# Altium schematic symbol library STMicroelectronics STM32 L1.SchLib: 169 symbols (part 12 of 20)
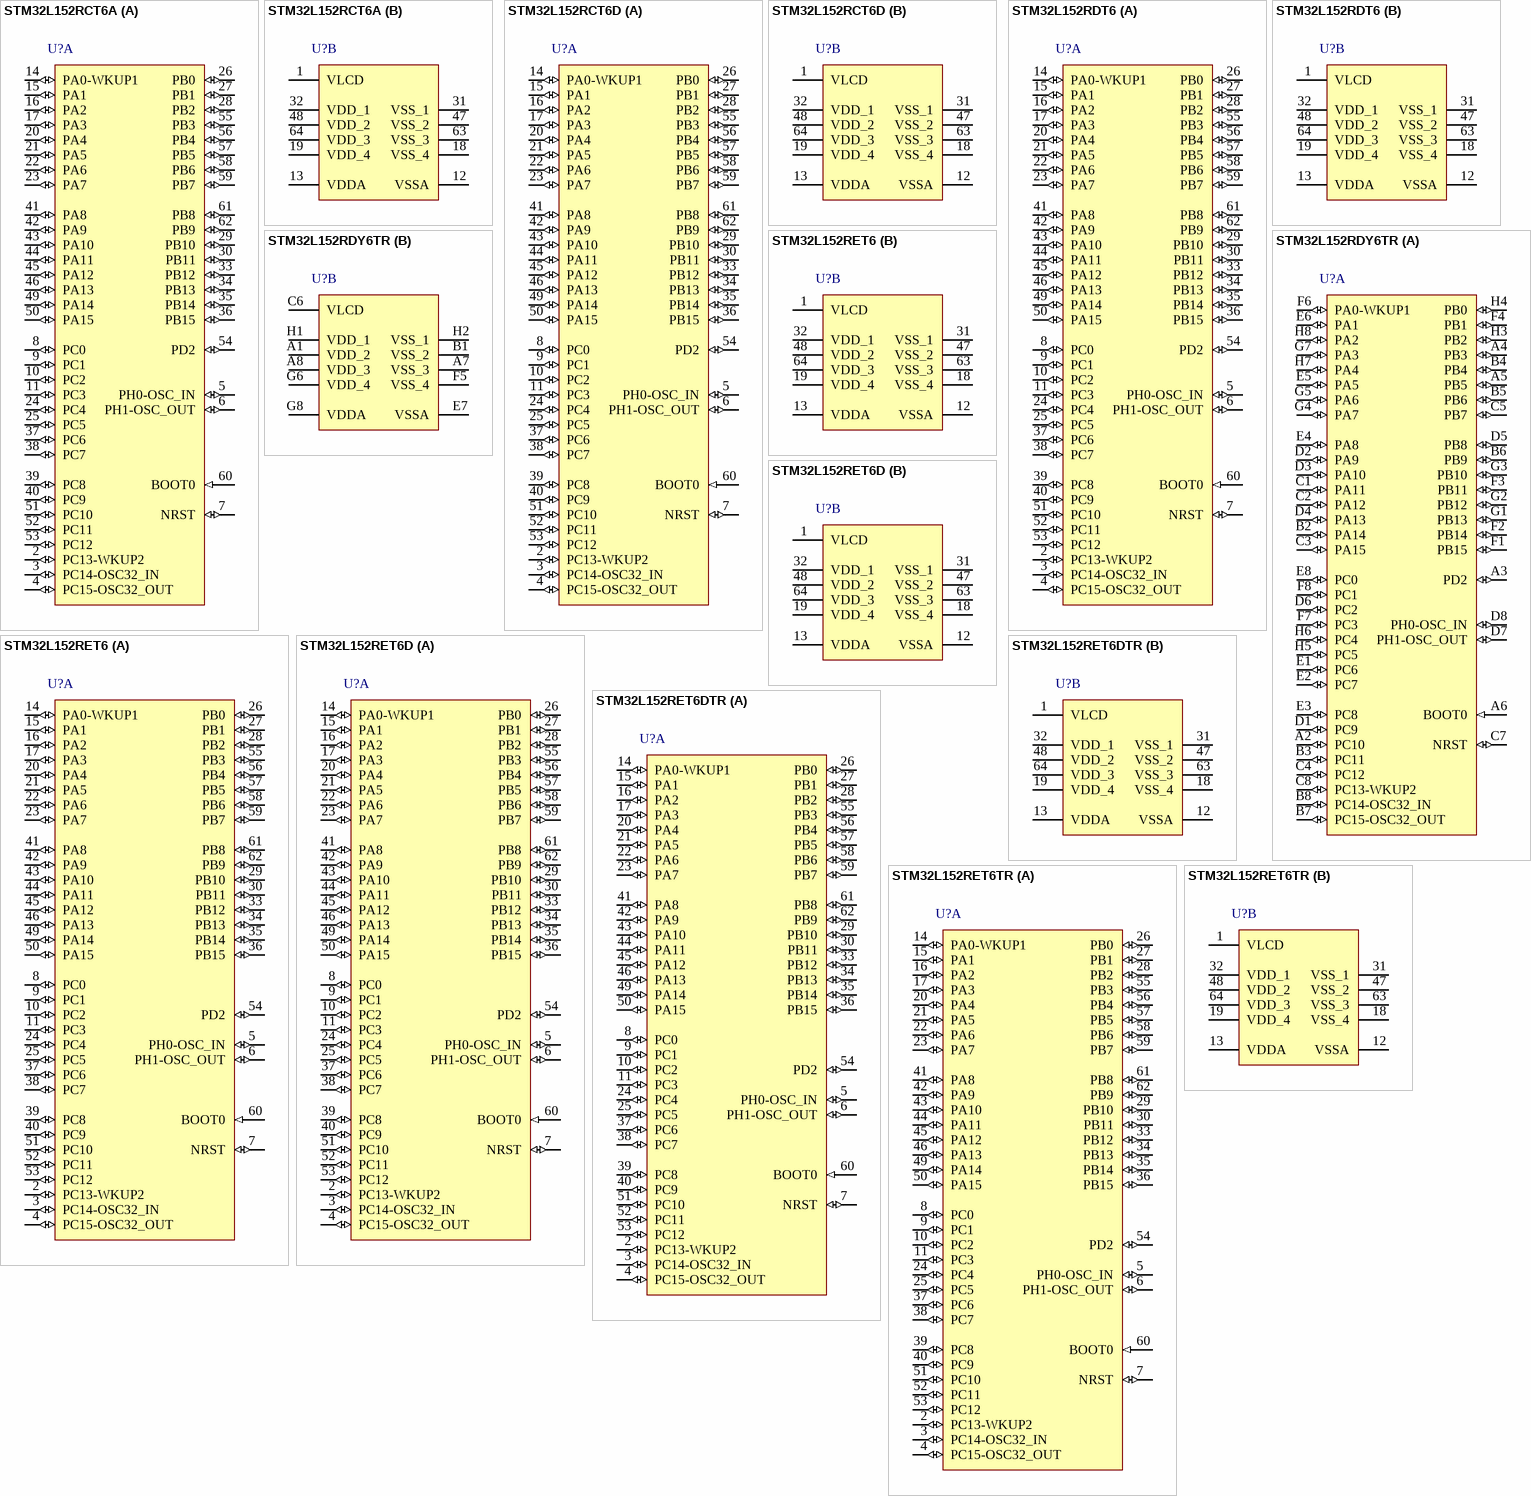
[diagram p45: symbols STM32L152RCT6A to STM32L152RET6TR]

## STM32L152RET6D
designator U?
ARM Cortex-M3 32-bit MCU, 512 KB Flash, 80 KB Internal RAM, 51 I/Os, 64-pin LQFP, -40 to 85 degC, Tray; Manufacturer: STMicroelectronics; PartNumber: STM32L152RET6D; D/A Converter: 2x12-bit (2 Channel); Data E2PROM nom (KB): 16; FLASH Size (Prog) (kB): 512; I/Os (High Current): 51; Internal RAM Size (kB): 80; Operating Frequency(F) (Processor speed) (MHz): 32; Supply Voltage (V): 1.65 to 3.6 V; DatasheetVersion: Rev. 4; PackageVersion: Rev. 4; PackageReference: LQFP64; PackageDescription: 64-Pin Low Profile Quad Flat Package, Body 10 x 10 mm, Pitch 0.5 mm; Core: ARM Cortex-M3; Temperature Range: -40 to 85 degC; Packing: Tray; Mounting Technology: Surface Mount; ComponentLink1Description: Manufacturer URL; ComponentLink1URL: http://www.st.com/web/en/home.html; ComponentLink2Description: Datasheet; ComponentLink2URL: http://www.st.com/st-web-ui/static/active/en/resource/technical/document/datasheet/DM00098321.pdf; ComponentLink3Description: Package Specification; ComponentLink3URL: http://www.st.com/st-web-ui/static/active/en/resource/technical/document/datasheet/DM00098321.pdf
footprint STM-LQFP64_N (Thin QFP, 64-Leads, Body 10x10mm, Pitch 0.5mm, IPC Medium Density)
footprint STM-LQFP64_L (Thin QFP, 64-Leads, Body 10x10mm, Pitch 0.5mm, IPC High Density)
footprint STM-LQFP64_M (Thin QFP, 64-Leads, Body 10x10mm, Pitch 0.5mm, IPC Low Density)
footprint STM-LQFP64_V (Thin QFP, 64-Leads, Body 10x10mm, Pitch 0.5mm, ST Recommended)
part A pins: 2 PC13-WKUP2 (io) "PC13-WKUP2/PC13/WKUP2/RTC_TAMP1/RTC_TS/RTC_OUT", 3 PC14-OSC32_IN (io) "PC14-OSC32_IN/PC14/OSC32_IN", 4 PC15-OSC32_OUT (io) "PC15-OSC32_OUT/PC15/OSC32_OUT", 5 PH0-OSC_IN (io) "PH0-OSC_IN/PH0/OSC_IN", 6 PH1-OSC_OUT (io) "PH1-OSC_OUT/PH1/OSC_OUT", 7 NRST (io), 8 PC0 (io) "PC0/LCD_SEG18/ADC_IN10/COMP1_INP", 9 PC1 (io) "PC1/LCD_SEG19/ADC_IN11/COMP1_INP", 10 PC2 (io) "PC2/LCD_SEG20/ADC_IN12/COMP1_INP", 11 PC3 (io) "PC3/LCD_SEG21/ADC_IN13/COMP1_INP", 14 PA0-WKUP1 (io) "PA0-WKUP1/PA0/WKUP1/RTC_TAMP2/TIM2_CH1_ETR/TIM5_CH1/USART2_CTS/ADC_IN0/COMP1_INP", 15 PA1 (io) "PA1/TIM2_CH2/TIM5_CH2/USART2_RTS/LCD_SEG0/ADC_IN1/COMP1_INP/OPAMP1_VINP", 16 PA2 (io) "PA2/TIM2_CH3/TIM5_CH3/TIM9_CH1/USART2_TX/LCD_SEG1/ADC_IN2/COMP1_INP/OPAMP1_VINM", 17 PA3 (io) "PA3/TIM2_CH4/TIM5_CH4/TIM9_CH2/USART2_RX/LCD_SEG2/ADC_IN3/COMP1_INP/OPAMP1_VOUT", 20 PA4 (io) "PA4/SPI1_NSS/SPI3_NSS/I2S3_WS/USART2_CK/ADC_IN4/DAC_OUT1/COMP1_INP", 21 PA5 (io) "PA5/TIM2_CH1_ETR/SPI1_SCK/ADC_IN5/DAC_OUT2/COMP1_INP", 22 PA6 (io) "PA6/TIM3_CH1/TIM10_CH1/SPI1_MISO/LCD_SEG3/ADC_IN6/COMP1_INP/OPAMP2_VINP", 23 PA7 (io) "PA7/TIM3_CH2/TIM11_CH1/SPI1_MOSI/LCD_SEG4/ADC_IN7/COMP1_INP/OPAMP2_VINM", 24 PC4 (io) "PC4/LCD_SEG22/ADC_IN14/COMP1_INP", 25 PC5 (io) "PC5/LCD_SEG23/ADC_IN15/COMP1_INP", 26 PB0 (io) "PB0/TIM3_CH3/LCD_SEG5/ADC_IN8/COMP1_INP/VREF_OUT/OPAMP2_VOUT", 27 PB1 (io) "PB1/TIM3_CH4/LCD_SEG6/ADC_IN9/COMP1_INP/VREF_OUT", 28 PB2 (io) "PB2/BOOT1/COMP1_INP", 29 PB10 (io) "PB10/TIM2_CH3/I2C2_SCL/USART3_TX/LCD_SEG10", 30 PB11 (io) "PB11/TIM2_CH4/I2C2_SDA/USART3_RX/LCD_SEG11", 33 PB12 (io) "PB12/TIM10_CH1/I2C2_SMBA/SPI2_NSS/I2S2_WS/USART3_CK/LCD_SEG12/ADC_IN18/COMP1_INP", 34 PB13 (io) "PB13/TIM9_CH1/SPI2_SCK/I2S2_CK/USART3_CTS/LCD_SEG13/ADC_IN19/COMP1_INP", 35 PB14 (io) "PB14/TIM9_CH2/SPI2_MISO/USART3_RTS/LCD_SEG14/ADC_IN20/COMP1_INP", 36 PB15 (io) "PB15/TIM11_CH1/SPI2_MOSI/I2S2_SD/LCD_SEG15/ADC_IN21/COMP1_INP/RTC_REFIN", 37 PC6 (io) "PC6/TIM3_CH1/I2S2_MCK/LCD_SEG24", 38 PC7 (io) "PC7/TIM3_CH2/I2S3_MCK/LCD_SEG25", 39 PC8 (io) "PC8/TIM3_CH3/LCD_SEG26", 40 PC9 (io) "PC9/TIM3_CH4/LCD_SEG27", 41 PA8 (io) "PA8/USART1_CK/MCO/LCD_COM0", 42 PA9 (io) "PA9/USART1_TX/LCD_COM1", 43 PA10 (io) "PA10/USART1_RX/LCD_COM2", 44 PA11 (io) "PA11/USART1_CTS/USB_DM/SPI1_MISO", 45 PA12 (io) "PA12/USART1_RTS/USB_DP/SPI1_MOSI", 46 PA13 (io) "PA13/JTMS-SWDAT", 49 PA14 (io) "PA14/JTCK-SWCLK", 50 PA15 (io) "PA15/JTDI/TIM2_CH1_ETR/SPI1_NSS/SPI3_NSS/I2S3_WS/LCD_SEG17", 51 PC10 (io) "PC10/SPI3_SCK/I2S3_CK/USART3_TX/UART4_TX/LCD_SEG28/LCD_SEG40/LCD_COM4", 52 PC11 (io) "PC11/SPI3_MISO/USART3_RX/UART4_RX/LCD_SEG29/LCD_SEG41/LCD_COM5", 53 PC12 (io) "PC12/SPI3_MOSI/I2S3_SD/USART3_CK/UART5_TX/LCD_SEG30/LCD_SEG42/LCD_COM6", 54 PD2 (io) "PD2/TIM3_ETR/UART5_RX/LCD_SEG31/LCD_SEG43/LCD_COM7", 55 PB3 (io) "PB3/JTDO/TIM2_CH2/SPI1_SCK/SPI3_SCK/I2S3_CK/LCD_SEG7/COMP2_INM", 56 PB4 (io) "PB4/NJTRST/TIM3_CH1/SPI1_MISO/SPI3_MISO/LCD_SEG8/COMP2_INP", 57 PB5 (io) "PB5/TIM3_CH2/I2C1_SMBA/SPI1_MOSI/SPI3_MOSI/I2S3_SD/LCD_SEG9/COMP2_INP", 58 PB6 (io) "PB6/TIM4_CH1/I2C1_SCL/USART1_TX/COMP2_INP", 59 PB7 (io) "PB7/TIM4_CH2/I2C1_SDA/USART1_RX/PVD_IN/COMP2_INP", 60 BOOT0 (in), 61 PB8 (io) "PB8/TIM4_CH3/TIM10_CH1/I2C1_SCL/LCD_SEG16", 62 PB9 (io) "PB9/TIM4_CH4/TIM11_CH1/I2C1_SDA/LCD_COM3"
part B pins: 1 VLCD (power), 12 VSSA (power), 13 VDDA (power), 18 VSS_4 (power), 19 VDD_4 (power), 31 VSS_1 (power), 32 VDD_1 (power), 47 VSS_2 (power), 48 VDD_2 (power), 63 VSS_3 (power), 64 VDD_3 (power)

## STM32L152RET6DTR
designator U?
ARM Cortex-M3 32-bit MCU, 512 KB Flash, 80 KB Internal RAM, 51 I/Os, 64-pin LQFP, -40 to 85 degC, Tape and Reel; Manufacturer: STMicroelectronics; PartNumber: STM32L152RET6DTR; D/A Converter: 2x12-bit (2 Channel); Data E2PROM nom (KB): 16; FLASH Size (Prog) (kB): 512; I/Os (High Current): 51; Internal RAM Size (kB): 80; Operating Frequency(F) (Processor speed) (MHz): 32; Supply Voltage (V): 1.65 to 3.6 V; DatasheetVersion: Rev. 4; PackageVersion: Rev. 4; PackageReference: LQFP64; PackageDescription: 64-Pin Low Profile Quad Flat Package, Body 10 x 10 mm, Pitch 0.5 mm; Core: ARM Cortex-M3; Temperature Range: -40 to 85 degC; Packing: Tape and Reel; Mounting Technology: Surface Mount; ComponentLink1Description: Manufacturer URL; ComponentLink1URL: http://www.st.com/web/en/home.html; ComponentLink2Description: Datasheet; ComponentLink2URL: http://www.st.com/st-web-ui/static/active/en/resource/technical/document/datasheet/DM00098321.pdf; ComponentLink3Description: Package Specification; ComponentLink3URL: http://www.st.com/st-web-ui/static/active/en/resource/technical/document/datasheet/DM00098321.pdf
footprint STM-LQFP64_N (Thin QFP, 64-Leads, Body 10x10mm, Pitch 0.5mm, IPC Medium Density)
footprint STM-LQFP64_L (Thin QFP, 64-Leads, Body 10x10mm, Pitch 0.5mm, IPC High Density)
footprint STM-LQFP64_M (Thin QFP, 64-Leads, Body 10x10mm, Pitch 0.5mm, IPC Low Density)
footprint STM-LQFP64_V (Thin QFP, 64-Leads, Body 10x10mm, Pitch 0.5mm, ST Recommended)
part A pins: 2 PC13-WKUP2 (io) "PC13-WKUP2/PC13/WKUP2/RTC_TAMP1/RTC_TS/RTC_OUT", 3 PC14-OSC32_IN (io) "PC14-OSC32_IN/PC14/OSC32_IN", 4 PC15-OSC32_OUT (io) "PC15-OSC32_OUT/PC15/OSC32_OUT", 5 PH0-OSC_IN (io) "PH0-OSC_IN/PH0/OSC_IN", 6 PH1-OSC_OUT (io) "PH1-OSC_OUT/PH1/OSC_OUT", 7 NRST (io), 8 PC0 (io) "PC0/LCD_SEG18/ADC_IN10/COMP1_INP", 9 PC1 (io) "PC1/LCD_SEG19/ADC_IN11/COMP1_INP", 10 PC2 (io) "PC2/LCD_SEG20/ADC_IN12/COMP1_INP", 11 PC3 (io) "PC3/LCD_SEG21/ADC_IN13/COMP1_INP", 14 PA0-WKUP1 (io) "PA0-WKUP1/PA0/WKUP1/RTC_TAMP2/TIM2_CH1_ETR/TIM5_CH1/USART2_CTS/ADC_IN0/COMP1_INP", 15 PA1 (io) "PA1/TIM2_CH2/TIM5_CH2/USART2_RTS/LCD_SEG0/ADC_IN1/COMP1_INP/OPAMP1_VINP", 16 PA2 (io) "PA2/TIM2_CH3/TIM5_CH3/TIM9_CH1/USART2_TX/LCD_SEG1/ADC_IN2/COMP1_INP/OPAMP1_VINM", 17 PA3 (io) "PA3/TIM2_CH4/TIM5_CH4/TIM9_CH2/USART2_RX/LCD_SEG2/ADC_IN3/COMP1_INP/OPAMP1_VOUT", 20 PA4 (io) "PA4/SPI1_NSS/SPI3_NSS/I2S3_WS/USART2_CK/ADC_IN4/DAC_OUT1/COMP1_INP", 21 PA5 (io) "PA5/TIM2_CH1_ETR/SPI1_SCK/ADC_IN5/DAC_OUT2/COMP1_INP", 22 PA6 (io) "PA6/TIM3_CH1/TIM10_CH1/SPI1_MISO/LCD_SEG3/ADC_IN6/COMP1_INP/OPAMP2_VINP", 23 PA7 (io) "PA7/TIM3_CH2/TIM11_CH1/SPI1_MOSI/LCD_SEG4/ADC_IN7/COMP1_INP/OPAMP2_VINM", 24 PC4 (io) "PC4/LCD_SEG22/ADC_IN14/COMP1_INP", 25 PC5 (io) "PC5/LCD_SEG23/ADC_IN15/COMP1_INP", 26 PB0 (io) "PB0/TIM3_CH3/LCD_SEG5/ADC_IN8/COMP1_INP/VREF_OUT/OPAMP2_VOUT", 27 PB1 (io) "PB1/TIM3_CH4/LCD_SEG6/ADC_IN9/COMP1_INP/VREF_OUT", 28 PB2 (io) "PB2/BOOT1/COMP1_INP", 29 PB10 (io) "PB10/TIM2_CH3/I2C2_SCL/USART3_TX/LCD_SEG10", 30 PB11 (io) "PB11/TIM2_CH4/I2C2_SDA/USART3_RX/LCD_SEG11", 33 PB12 (io) "PB12/TIM10_CH1/I2C2_SMBA/SPI2_NSS/I2S2_WS/USART3_CK/LCD_SEG12/ADC_IN18/COMP1_INP", 34 PB13 (io) "PB13/TIM9_CH1/SPI2_SCK/I2S2_CK/USART3_CTS/LCD_SEG13/ADC_IN19/COMP1_INP", 35 PB14 (io) "PB14/TIM9_CH2/SPI2_MISO/USART3_RTS/LCD_SEG14/ADC_IN20/COMP1_INP", 36 PB15 (io) "PB15/TIM11_CH1/SPI2_MOSI/I2S2_SD/LCD_SEG15/ADC_IN21/COMP1_INP/RTC_REFIN", 37 PC6 (io) "PC6/TIM3_CH1/I2S2_MCK/LCD_SEG24", 38 PC7 (io) "PC7/TIM3_CH2/I2S3_MCK/LCD_SEG25", 39 PC8 (io) "PC8/TIM3_CH3/LCD_SEG26", 40 PC9 (io) "PC9/TIM3_CH4/LCD_SEG27", 41 PA8 (io) "PA8/USART1_CK/MCO/LCD_COM0", 42 PA9 (io) "PA9/USART1_TX/LCD_COM1", 43 PA10 (io) "PA10/USART1_RX/LCD_COM2", 44 PA11 (io) "PA11/USART1_CTS/USB_DM/SPI1_MISO", 45 PA12 (io) "PA12/USART1_RTS/USB_DP/SPI1_MOSI", 46 PA13 (io) "PA13/JTMS-SWDAT", 49 PA14 (io) "PA14/JTCK-SWCLK", 50 PA15 (io) "PA15/JTDI/TIM2_CH1_ETR/SPI1_NSS/SPI3_NSS/I2S3_WS/LCD_SEG17", 51 PC10 (io) "PC10/SPI3_SCK/I2S3_CK/USART3_TX/UART4_TX/LCD_SEG28/LCD_SEG40/LCD_COM4", 52 PC11 (io) "PC11/SPI3_MISO/USART3_RX/UART4_RX/LCD_SEG29/LCD_SEG41/LCD_COM5", 53 PC12 (io) "PC12/SPI3_MOSI/I2S3_SD/USART3_CK/UART5_TX/LCD_SEG30/LCD_SEG42/LCD_COM6", 54 PD2 (io) "PD2/TIM3_ETR/UART5_RX/LCD_SEG31/LCD_SEG43/LCD_COM7", 55 PB3 (io) "PB3/JTDO/TIM2_CH2/SPI1_SCK/SPI3_SCK/I2S3_CK/LCD_SEG7/COMP2_INM", 56 PB4 (io) "PB4/NJTRST/TIM3_CH1/SPI1_MISO/SPI3_MISO/LCD_SEG8/COMP2_INP", 57 PB5 (io) "PB5/TIM3_CH2/I2C1_SMBA/SPI1_MOSI/SPI3_MOSI/I2S3_SD/LCD_SEG9/COMP2_INP", 58 PB6 (io) "PB6/TIM4_CH1/I2C1_SCL/USART1_TX/COMP2_INP", 59 PB7 (io) "PB7/TIM4_CH2/I2C1_SDA/USART1_RX/PVD_IN/COMP2_INP", 60 BOOT0 (in), 61 PB8 (io) "PB8/TIM4_CH3/TIM10_CH1/I2C1_SCL/LCD_SEG16", 62 PB9 (io) "PB9/TIM4_CH4/TIM11_CH1/I2C1_SDA/LCD_COM3"
part B pins: 1 VLCD (power), 12 VSSA (power), 13 VDDA (power), 18 VSS_4 (power), 19 VDD_4 (power), 31 VSS_1 (power), 32 VDD_1 (power), 47 VSS_2 (power), 48 VDD_2 (power), 63 VSS_3 (power), 64 VDD_3 (power)

## STM32L152RET6TR
designator U?
ARM Cortex-M3 32-bit MCU, 512 KB Flash, 80 KB Internal RAM, 51 I/Os, 64-pin LQFP, -40 to 85 degC, Tape and Reel; Manufacturer: STMicroelectronics; PartNumber: STM32L152RET6TR; D/A Converter: 2x12-bit (2 Channel); Data E2PROM nom (KB): 16; FLASH Size (Prog) (kB): 512; I/Os (High Current): 51; Internal RAM Size (kB): 80; Operating Frequency(F) (Processor speed) (MHz): 32; Supply Voltage (V): 1.8 to 3.6 V; DatasheetVersion: Rev. 4; PackageVersion: Rev. 4; PackageReference: LQFP64; PackageDescription: 64-Pin Low Profile Quad Flat Package, Body 10 x 10 mm, Pitch 0.5 mm; Core: ARM Cortex-M3; Temperature Range: -40 to 85 degC; Packing: Tape and Reel; Mounting Technology: Surface Mount; ComponentLink1Description: Manufacturer URL; ComponentLink1URL: http://www.st.com/web/en/home.html; ComponentLink2Description: Datasheet; ComponentLink2URL: http://www.st.com/st-web-ui/static/active/en/resource/technical/document/datasheet/DM00098321.pdf; ComponentLink3Description: Package Specification; ComponentLink3URL: http://www.st.com/st-web-ui/static/active/en/resource/technical/document/datasheet/DM00098321.pdf
footprint STM-LQFP64_N (Thin QFP, 64-Leads, Body 10x10mm, Pitch 0.5mm, IPC Medium Density)
footprint STM-LQFP64_L (Thin QFP, 64-Leads, Body 10x10mm, Pitch 0.5mm, IPC High Density)
footprint STM-LQFP64_M (Thin QFP, 64-Leads, Body 10x10mm, Pitch 0.5mm, IPC Low Density)
footprint STM-LQFP64_V (Thin QFP, 64-Leads, Body 10x10mm, Pitch 0.5mm, ST Recommended)
part A pins: 2 PC13-WKUP2 (io) "PC13-WKUP2/PC13/WKUP2/RTC_TAMP1/RTC_TS/RTC_OUT", 3 PC14-OSC32_IN (io) "PC14-OSC32_IN/PC14/OSC32_IN", 4 PC15-OSC32_OUT (io) "PC15-OSC32_OUT/PC15/OSC32_OUT", 5 PH0-OSC_IN (io) "PH0-OSC_IN/PH0/OSC_IN", 6 PH1-OSC_OUT (io) "PH1-OSC_OUT/PH1/OSC_OUT", 7 NRST (io), 8 PC0 (io) "PC0/LCD_SEG18/ADC_IN10/COMP1_INP", 9 PC1 (io) "PC1/LCD_SEG19/ADC_IN11/COMP1_INP", 10 PC2 (io) "PC2/LCD_SEG20/ADC_IN12/COMP1_INP", 11 PC3 (io) "PC3/LCD_SEG21/ADC_IN13/COMP1_INP", 14 PA0-WKUP1 (io) "PA0-WKUP1/PA0/WKUP1/RTC_TAMP2/TIM2_CH1_ETR/TIM5_CH1/USART2_CTS/ADC_IN0/COMP1_INP", 15 PA1 (io) "PA1/TIM2_CH2/TIM5_CH2/USART2_RTS/LCD_SEG0/ADC_IN1/COMP1_INP/OPAMP1_VINP", 16 PA2 (io) "PA2/TIM2_CH3/TIM5_CH3/TIM9_CH1/USART2_TX/LCD_SEG1/ADC_IN2/COMP1_INP/OPAMP1_VINM", 17 PA3 (io) "PA3/TIM2_CH4/TIM5_CH4/TIM9_CH2/USART2_RX/LCD_SEG2/ADC_IN3/COMP1_INP/OPAMP1_VOUT", 20 PA4 (io) "PA4/SPI1_NSS/SPI3_NSS/I2S3_WS/USART2_CK/ADC_IN4/DAC_OUT1/COMP1_INP", 21 PA5 (io) "PA5/TIM2_CH1_ETR/SPI1_SCK/ADC_IN5/DAC_OUT2/COMP1_INP", 22 PA6 (io) "PA6/TIM3_CH1/TIM10_CH1/SPI1_MISO/LCD_SEG3/ADC_IN6/COMP1_INP/OPAMP2_VINP", 23 PA7 (io) "PA7/TIM3_CH2/TIM11_CH1/SPI1_MOSI/LCD_SEG4/ADC_IN7/COMP1_INP/OPAMP2_VINM", 24 PC4 (io) "PC4/LCD_SEG22/ADC_IN14/COMP1_INP", 25 PC5 (io) "PC5/LCD_SEG23/ADC_IN15/COMP1_INP", 26 PB0 (io) "PB0/TIM3_CH3/LCD_SEG5/ADC_IN8/COMP1_INP/VREF_OUT/OPAMP2_VOUT", 27 PB1 (io) "PB1/TIM3_CH4/LCD_SEG6/ADC_IN9/COMP1_INP/VREF_OUT", 28 PB2 (io) "PB2/BOOT1/COMP1_INP", 29 PB10 (io) "PB10/TIM2_CH3/I2C2_SCL/USART3_TX/LCD_SEG10", 30 PB11 (io) "PB11/TIM2_CH4/I2C2_SDA/USART3_RX/LCD_SEG11", 33 PB12 (io) "PB12/TIM10_CH1/I2C2_SMBA/SPI2_NSS/I2S2_WS/USART3_CK/LCD_SEG12/ADC_IN18/COMP1_INP", 34 PB13 (io) "PB13/TIM9_CH1/SPI2_SCK/I2S2_CK/USART3_CTS/LCD_SEG13/ADC_IN19/COMP1_INP", 35 PB14 (io) "PB14/TIM9_CH2/SPI2_MISO/USART3_RTS/LCD_SEG14/ADC_IN20/COMP1_INP", 36 PB15 (io) "PB15/TIM11_CH1/SPI2_MOSI/I2S2_SD/LCD_SEG15/ADC_IN21/COMP1_INP/RTC_REFIN", 37 PC6 (io) "PC6/TIM3_CH1/I2S2_MCK/LCD_SEG24", 38 PC7 (io) "PC7/TIM3_CH2/I2S3_MCK/LCD_SEG25", 39 PC8 (io) "PC8/TIM3_CH3/LCD_SEG26", 40 PC9 (io) "PC9/TIM3_CH4/LCD_SEG27", 41 PA8 (io) "PA8/USART1_CK/MCO/LCD_COM0", 42 PA9 (io) "PA9/USART1_TX/LCD_COM1", 43 PA10 (io) "PA10/USART1_RX/LCD_COM2", 44 PA11 (io) "PA11/USART1_CTS/USB_DM/SPI1_MISO", 45 PA12 (io) "PA12/USART1_RTS/USB_DP/SPI1_MOSI", 46 PA13 (io) "PA13/JTMS-SWDAT", 49 PA14 (io) "PA14/JTCK-SWCLK", 50 PA15 (io) "PA15/JTDI/TIM2_CH1_ETR/SPI1_NSS/SPI3_NSS/I2S3_WS/LCD_SEG17", 51 PC10 (io) "PC10/SPI3_SCK/I2S3_CK/USART3_TX/UART4_TX/LCD_SEG28/LCD_SEG40/LCD_COM4", 52 PC11 (io) "PC11/SPI3_MISO/USART3_RX/UART4_RX/LCD_SEG29/LCD_SEG41/LCD_COM5", 53 PC12 (io) "PC12/SPI3_MOSI/I2S3_SD/USART3_CK/UART5_TX/LCD_SEG30/LCD_SEG42/LCD_COM6", 54 PD2 (io) "PD2/TIM3_ETR/UART5_RX/LCD_SEG31/LCD_SEG43/LCD_COM7", 55 PB3 (io) "PB3/JTDO/TIM2_CH2/SPI1_SCK/SPI3_SCK/I2S3_CK/LCD_SEG7/COMP2_INM", 56 PB4 (io) "PB4/NJTRST/TIM3_CH1/SPI1_MISO/SPI3_MISO/LCD_SEG8/COMP2_INP", 57 PB5 (io) "PB5/TIM3_CH2/I2C1_SMBA/SPI1_MOSI/SPI3_MOSI/I2S3_SD/LCD_SEG9/COMP2_INP", 58 PB6 (io) "PB6/TIM4_CH1/I2C1_SCL/USART1_TX/COMP2_INP", 59 PB7 (io) "PB7/TIM4_CH2/I2C1_SDA/USART1_RX/PVD_IN/COMP2_INP", 60 BOOT0 (in), 61 PB8 (io) "PB8/TIM4_CH3/TIM10_CH1/I2C1_SCL/LCD_SEG16", 62 PB9 (io) "PB9/TIM4_CH4/TIM11_CH1/I2C1_SDA/LCD_COM3"
part B pins: 1 VLCD (power), 12 VSSA (power), 13 VDDA (power), 18 VSS_4 (power), 19 VDD_4 (power), 31 VSS_1 (power), 32 VDD_1 (power), 47 VSS_2 (power), 48 VDD_2 (power), 63 VSS_3 (power), 64 VDD_3 (power)

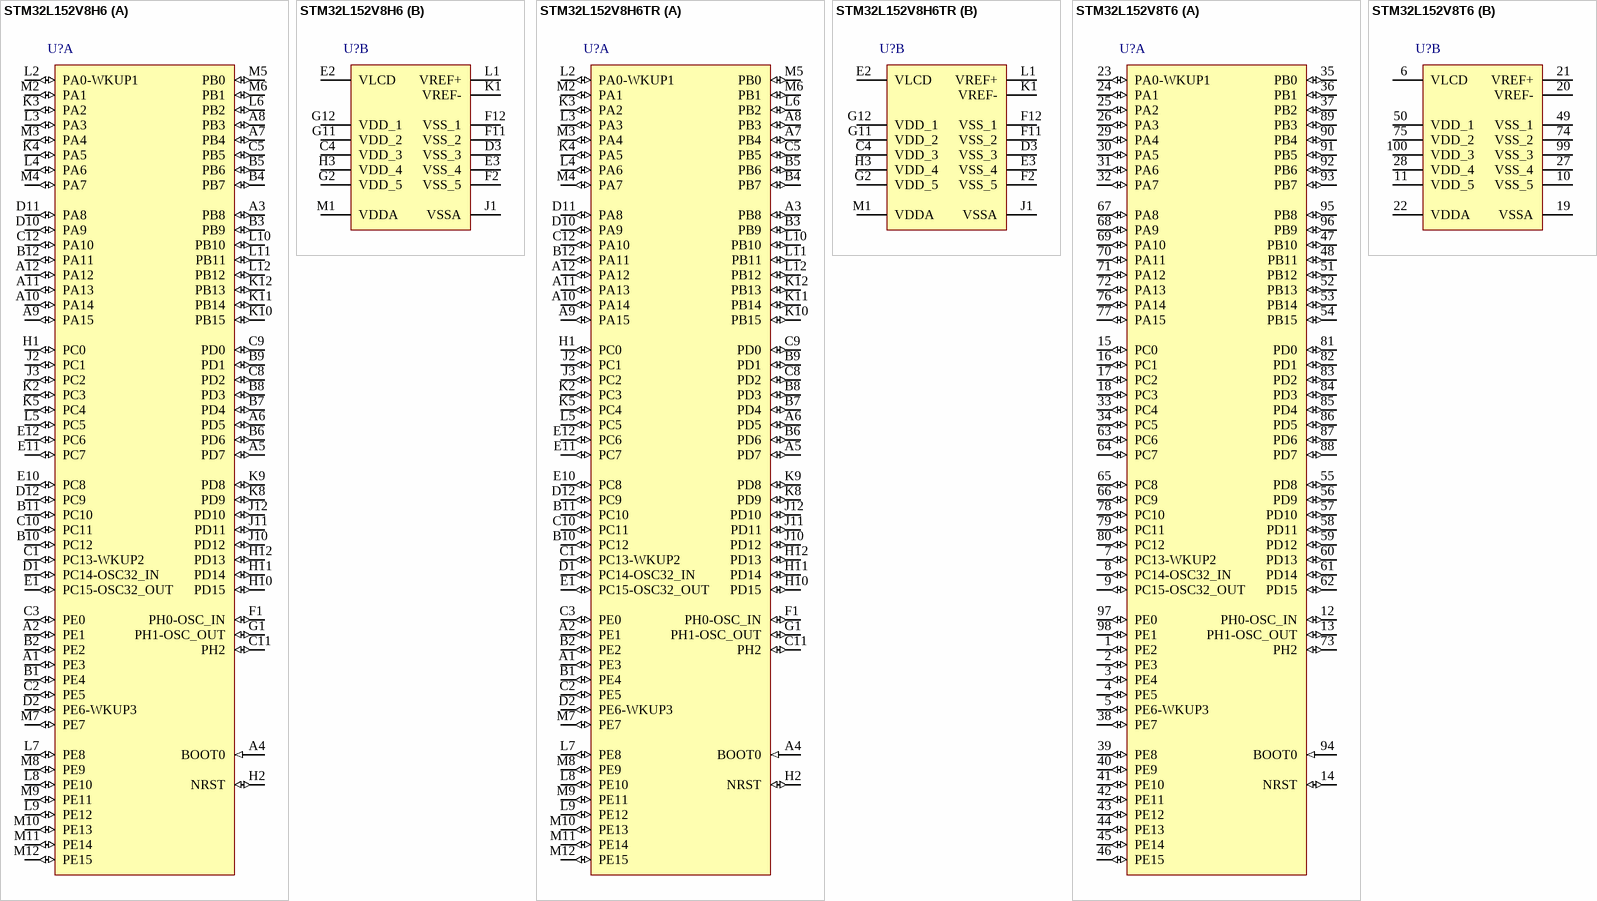
[diagram p18: symbols STM32L152V8H6 to STM32L152V8T6]

## STM32L152V8H6
designator U?
ARM Cortex-M3 32-bit MCU, 64 KB Flash, 10 KB Internal RAM, 83 I/Os, 100-pin UFBGA, -40 to 85 degC, Tray; Manufacturer: STMicroelectronics; PartNumber: STM32L152V8H6; D/A Converter: 2x12-bit (2 Channel); Data E2PROM nom (B): 4096; FLASH Size (Prog) (kB): 64; I/Os (High Current): 83; Internal RAM Size (kB): 10; Operating Frequency(F) (Processor speed) (MHz): 32; Supply Voltage(Vcc) min (V): 1.65; DatasheetVersion: Rev. 8; PackageVersion: Rev. 8, 02/2013; PackageReference: UFBGA100; PackageDescription: 100-Ball Ultra Thin Fine Pitch Ball Grid Array, 7 x 7 x 0.6 mm Body, 0.5 mm Pitch; Core: ARM Cortex-M3; Packing: Tray; Mounting Technology: Surface Mount; ComponentLink1Description: Manufacturer URL; ComponentLink1URL: http://www.st.com/web/en/home.html; ComponentLink2Description: Datasheet; ComponentLink2URL: http://www.st.com/st-web-ui/static/active/en/resource/technical/document/datasheet/CD00277537.pdf; ComponentLink3Description: Package Specification; ComponentLink3URL: http://www.st.com/st-web-ui/static/active/en/resource/technical/document/datasheet/CD00277537.pdf
footprint STM-UFBGA100 (BGA, 100-Balls, Body 7x7mm, Pitch 0.5mm)
part A pins: A1 PE3 (io) "PE3/TRACED0/LCD_SEG39/TIM3_CH1", A2 PE1 (io) "PE1/LCD_SEG37/TIM11_CH1", A3 PB8 (io) "PB8/TIM4_CH3/I2C1_SCL/LCD_SEG16/TIM10_CH1", A4 BOOT0 (in), A5 PD7 (io) "PD7/USART2_CK/TIM9_CH2", A6 PD5 (io) "PD5/USART2_TX", A7 PB4 (io) "PB4/NJTRST/TIM3_CH1/SPI1_MISO/COMP2_INP/LCD_SEG8", A8 PB3 (io) "PB3/JTDO/TIM2_CH2/SPI1_SCK/COMP2_INM/LCD_SEG7", A9 PA15 (io) "PA15/JTDI/TIM2_CH1_ETR/SPI1_NSS/LCD_SEG17", A10 PA14 (io) "PA14/JTCK/SWCLK", A11 PA13 (io) "PA13/JTMS/SWDAT", A12 PA12 (io) "PA12/USART1_RTS/USB_DP/SPI1_MOSI", B1 PE4 (io) "PE4/TRACED1/TIM3_CH2", B2 PE2 (io) "PE2/TRACECLK/LCD_SEG38/TIM3_ETR", B3 PB9 (io) "PB9/TIM4_CH4/I2C1_SDA/LCD_COM3/TIM11_CH1", B4 PB7 (io) "PB7/I2C1_SDA/TIM4_CH2/USART1_RX/PVD_IN", B5 PB6 (io) "PB6/I2C1_SCL/TIM4_CH1/USART1_TX", B6 PD6 (io) "PD6/USART2_RX", B7 PD4 (io) "PD4/USART2_RTS/SPI2_MOSI", B8 PD3 (io) "PD3/USART2_CTS/SPI2_MISO", B9 PD1 (io) "PD1/SPI2_SCK", B10 PC12 (io) "PC12/USART3_CK/LCD_SEG30/LCD_SEG42/LCD_COM6", B11 PC10 (io) "PC10/USART3_TX/LCD_SEG28/LCD_SEG40/LCD_COM4", B12 PA11 (io) "PA11/USART1_CTS/USB_DM/SPI1_MISO", C1 PC13-WKUP2 (io) "PC13-WKUP2/PC13/RTC_TAMP1/RTC_TS/RTC_OUT/WKUP2", C2 PE5 (io) "PE5/TRACED2/TIM9_CH1", C3 PE0 (io) "PE0/TIM4_ETR/LCD_SEG36/TIM10_CH1", C5 PB5 (io) "PB5/I2C1_SMBA/TIM3_CH2/SPI1_MOSI/COMP2_INP/LCD_SEG9", C8 PD2 (io) "PD2/TIM3_ETR/LCD_SEG31/LCD_SEG43/LCD_COM7", C9 PD0 (io) "PD0/SPI2_NSS/TIM9_CH1", C10 PC11 (io) "PC11/USART3_RX/LCD_SEG29/LCD_SEG41/LCD_COM5", C11 PH2 (io), C12 PA10 (io) "PA10/USART1_RX/LCD_COM2", D1 PC14-OSC32_IN (io) "PC14-OSC32_IN/PC14/OSC32_IN", D2 PE6-WKUP3 (io) "PE6-WKUP3/PE6/TRACED3/WKUP3/TIM9_CH2", D10 PA9 (io) "PA9/USART1_TX/LCD_COM1", D11 PA8 (io) "PA8/USART1_CK/MCO/LCD_COM0", D12 PC9 (io) "PC9/TIM3_CH4/LCD_SEG27", E1 PC15-OSC32_OUT (io) "PC15-OSC32_OUT/PC15/OSC32_OUT", E10 PC8 (io) "PC8/TIM3_CH3/LCD_SEG26", E11 PC7 (io) "PC7/TIM3_CH2/LCD_SEG25", E12 PC6 (io) "PC6/TIM3_CH1/LCD_SEG24", F1 PH0-OSC_IN (io) "PH0-OSC_IN/PH0/OSC_IN", G1 PH1-OSC_OUT (io) "PH1-OSC_OUT/PH1/OSC_OUT", H1 PC0 (io) "PC0/ADC_IN10/LCD_SEG18/COMP1_INP", H2 NRST (io), H10 PD15 (io) "PD15/TIM4_CH4/LCD_SEG35", H11 PD14 (io) "PD14/TIM4_CH3/LCD_SEG34", H12 PD13 (io) "PD13/TIM4_CH2/LCD_SEG33", J2 PC1 (io) "PC1/ADC_IN11/LCD_SEG19/COMP1_INP", J3 PC2 (io) "PC2/ADC_IN12/LCD_SEG20/COMP1_INP", J10 PD12 (io) "PD12/TIM4_CH1/USART3_RTS/LCD_SEG32", J11 PD11 (io) "PD11/USART3_CTS/LCD_SEG31", J12 PD10 (io) "PD10/USART3_CK/LCD_SEG30", K2 PC3 (io) "PC3/ADC_IN13/LCD_SEG21/COMP1_INP", K3 PA2 (io) "PA2/USART2_TX/ADC_IN2/TIM2_CH3/TIM9_CH1/LCD_SEG1/COMP1_INP", K4 PA5 (io) "PA5/SPI1_SCK/ADC_IN5/DAC_OUT2/TIM2_CH1_ETR/COMP1_INP", K5 PC4 (io) "PC4/ADC_IN14/LCD_SEG22/COMP1_INP", K8 PD9 (io) "PD9/USART3_RX/LCD_SEG29", K9 PD8 (io) "PD8/USART3_TX/LCD_SEG28", K10 PB15 (io) "PB15/SPI2_MOSI/LCD_SEG15/ADC_IN21/COMP1_INP/TIM11_CH1/RTC_REFIN", K11 PB14 (io) "PB14/SPI2_MISO/USART3_RTS/LCD_SEG14/ADC_IN20/COMP1_INP/TIM9_CH2", K12 PB13 (io) "PB13/SPI2_SCK/USART3_CTS/LCD_SEG13/ADC_IN19/COMP1_INP/TIM9_CH1", L2 PA0-WKUP1 (io) "PA0-WKUP1/PA0/WKUP1/USART2_CTS/ADC_IN0/TIM2_CH1_ETR/COMP1_INP", L3 PA3 (io) "PA3/USART2_RX/ADC_IN3/TIM2_CH4/TIM9_CH2/LCD_SEG2/COMP1_INP", L4 PA6 (io) "PA6/SPI1_MISO/ADC_IN6/TIM3_CH1/LCD_SEG3/TIM10_CH1/COMP1_INP", L5 PC5 (io) "PC5/ADC_IN15/LCD_SEG23/COMP1_INP", L6 PB2 (io) "PB2/BOOT1", L7 PE8 (io) "PE8/ADC_IN23/COMP1_INP", L8 PE10 (io) "PE10/ADC_IN25/TIM2_CH2/COMP1_INP", L9 PE12 (io) "PE12/TIM2_CH4/SPI1_NSS", L10 PB10 (io) "PB10/I2C2_SCL/USART3_TX/TIM2_CH3/LCD_SEG10", L11 PB11 (io) "PB11/I2C2_SDA/USART3_RX/TIM2_CH4/LCD_SEG11", L12 PB12 (io) "PB12/SPI2_NSS/I2C2_SMBA/USART3_CK/LCD_SEG12/ADC_IN18/COMP1_INP/TIM10_CH1", M2 PA1 (io) "PA1/USART2_RTS/ADC_IN1/TIM2_CH2/LCD_SEG0/COMP1_INP", M3 PA4 (io) "PA4/SPI1_NSS/USART2_CK/ADC_IN4/DAC_OUT1/COMP1_INP", M4 PA7 (io) "PA7/SPI1_MOSI/ADC_IN7/TIM3_CH2/LCD_SEG4/TIM11_CH1/COMP1_INP", M5 PB0 (io) "PB0/ADC_IN8/TIM3_CH3/LCD_SEG5/COMP1_INP/VREF_OUT", M6 PB1 (io) "PB1/ADC_IN9/TIM3_CH4/LCD_SEG6/COMP1_INP/VREF_OUT", M7 PE7 (io) "PE7/ADC_IN22/COMP1_INP", M8 PE9 (io) "PE9/ADC_IN24/TIM2_CH1_ETR/COMP1_INP", M9 PE11 (io) "PE11/TIM2_CH3", M10 PE13 (io) "PE13/SPI1_SCK", M11 PE14 (io) "PE14/SPI1_MISO", M12 PE15 (io) "PE15/SPI1_MOSI"
part B pins: C4 VDD_3 (power), D3 VSS_3 (power), E2 VLCD (power), E3 VSS_4 (power), F2 VSS_5 (power), F11 VSS_2 (power), F12 VSS_1 (power), G2 VDD_5 (power), G11 VDD_2 (power), G12 VDD_1 (power), H3 VDD_4 (power), J1 VSSA (power), K1 VREF- (power), L1 VREF+ (power), M1 VDDA (power)

## STM32L152V8H6TR
designator U?
ARM Cortex-M3 32-bit MCU, 64 KB Flash, 10 KB Internal RAM, 83 I/Os, 100-pin UFBGA, -40 to 85 degC, Tape and Reel; Manufacturer: STMicroelectronics; PartNumber: STM32L152V8H6TR; D/A Converter: 2x12-bit (2 Channel); Data E2PROM nom (B): 4096; FLASH Size (Prog) (kB): 64; I/Os (High Current): 83; Internal RAM Size (kB): 10; Operating Frequency(F) (Processor speed) (MHz): 32; Supply Voltage(Vcc) min (V): 1.65; DatasheetVersion: Rev. 8; PackageVersion: Rev. 8, 02/2013; PackageReference: UFBGA100; PackageDescription: 100-Ball Ultra Thin Fine Pitch Ball Grid Array, 7 x 7 x 0.6 mm Body, 0.5 mm Pitch; Core: ARM Cortex-M3; Packing: Tape and Reel; Mounting Technology: Surface Mount; ComponentLink1Description: Manufacturer URL; ComponentLink1URL: http://www.st.com/web/en/home.html; ComponentLink2Description: Datasheet; ComponentLink2URL: http://www.st.com/st-web-ui/static/active/en/resource/technical/document/datasheet/CD00277537.pdf; ComponentLink3Description: Package Specification; ComponentLink3URL: http://www.st.com/st-web-ui/static/active/en/resource/technical/document/datasheet/CD00277537.pdf
footprint STM-UFBGA100 (BGA, 100-Balls, Body 7x7mm, Pitch 0.5mm)
part A pins: A1 PE3 (io) "PE3/TRACED0/LCD_SEG39/TIM3_CH1", A2 PE1 (io) "PE1/LCD_SEG37/TIM11_CH1", A3 PB8 (io) "PB8/TIM4_CH3/I2C1_SCL/LCD_SEG16/TIM10_CH1", A4 BOOT0 (in), A5 PD7 (io) "PD7/USART2_CK/TIM9_CH2", A6 PD5 (io) "PD5/USART2_TX", A7 PB4 (io) "PB4/NJTRST/TIM3_CH1/SPI1_MISO/COMP2_INP/LCD_SEG8", A8 PB3 (io) "PB3/JTDO/TIM2_CH2/SPI1_SCK/COMP2_INM/LCD_SEG7", A9 PA15 (io) "PA15/JTDI/TIM2_CH1_ETR/SPI1_NSS/LCD_SEG17", A10 PA14 (io) "PA14/JTCK/SWCLK", A11 PA13 (io) "PA13/JTMS/SWDAT", A12 PA12 (io) "PA12/USART1_RTS/USB_DP/SPI1_MOSI", B1 PE4 (io) "PE4/TRACED1/TIM3_CH2", B2 PE2 (io) "PE2/TRACECLK/LCD_SEG38/TIM3_ETR", B3 PB9 (io) "PB9/TIM4_CH4/I2C1_SDA/LCD_COM3/TIM11_CH1", B4 PB7 (io) "PB7/I2C1_SDA/TIM4_CH2/USART1_RX/PVD_IN", B5 PB6 (io) "PB6/I2C1_SCL/TIM4_CH1/USART1_TX", B6 PD6 (io) "PD6/USART2_RX", B7 PD4 (io) "PD4/USART2_RTS/SPI2_MOSI", B8 PD3 (io) "PD3/USART2_CTS/SPI2_MISO", B9 PD1 (io) "PD1/SPI2_SCK", B10 PC12 (io) "PC12/USART3_CK/LCD_SEG30/LCD_SEG42/LCD_COM6", B11 PC10 (io) "PC10/USART3_TX/LCD_SEG28/LCD_SEG40/LCD_COM4", B12 PA11 (io) "PA11/USART1_CTS/USB_DM/SPI1_MISO", C1 PC13-WKUP2 (io) "PC13-WKUP2/PC13/RTC_TAMP1/RTC_TS/RTC_OUT/WKUP2", C2 PE5 (io) "PE5/TRACED2/TIM9_CH1", C3 PE0 (io) "PE0/TIM4_ETR/LCD_SEG36/TIM10_CH1", C5 PB5 (io) "PB5/I2C1_SMBA/TIM3_CH2/SPI1_MOSI/COMP2_INP/LCD_SEG9", C8 PD2 (io) "PD2/TIM3_ETR/LCD_SEG31/LCD_SEG43/LCD_COM7", C9 PD0 (io) "PD0/SPI2_NSS/TIM9_CH1", C10 PC11 (io) "PC11/USART3_RX/LCD_SEG29/LCD_SEG41/LCD_COM5", C11 PH2 (io), C12 PA10 (io) "PA10/USART1_RX/LCD_COM2", D1 PC14-OSC32_IN (io) "PC14-OSC32_IN/PC14/OSC32_IN", D2 PE6-WKUP3 (io) "PE6-WKUP3/PE6/TRACED3/WKUP3/TIM9_CH2", D10 PA9 (io) "PA9/USART1_TX/LCD_COM1", D11 PA8 (io) "PA8/USART1_CK/MCO/LCD_COM0", D12 PC9 (io) "PC9/TIM3_CH4/LCD_SEG27", E1 PC15-OSC32_OUT (io) "PC15-OSC32_OUT/PC15/OSC32_OUT", E10 PC8 (io) "PC8/TIM3_CH3/LCD_SEG26", E11 PC7 (io) "PC7/TIM3_CH2/LCD_SEG25", E12 PC6 (io) "PC6/TIM3_CH1/LCD_SEG24", F1 PH0-OSC_IN (io) "PH0-OSC_IN/PH0/OSC_IN", G1 PH1-OSC_OUT (io) "PH1-OSC_OUT/PH1/OSC_OUT", H1 PC0 (io) "PC0/ADC_IN10/LCD_SEG18/COMP1_INP", H2 NRST (io), H10 PD15 (io) "PD15/TIM4_CH4/LCD_SEG35", H11 PD14 (io) "PD14/TIM4_CH3/LCD_SEG34", H12 PD13 (io) "PD13/TIM4_CH2/LCD_SEG33", J2 PC1 (io) "PC1/ADC_IN11/LCD_SEG19/COMP1_INP", J3 PC2 (io) "PC2/ADC_IN12/LCD_SEG20/COMP1_INP", J10 PD12 (io) "PD12/TIM4_CH1/USART3_RTS/LCD_SEG32", J11 PD11 (io) "PD11/USART3_CTS/LCD_SEG31", J12 PD10 (io) "PD10/USART3_CK/LCD_SEG30", K2 PC3 (io) "PC3/ADC_IN13/LCD_SEG21/COMP1_INP", K3 PA2 (io) "PA2/USART2_TX/ADC_IN2/TIM2_CH3/TIM9_CH1/LCD_SEG1/COMP1_INP", K4 PA5 (io) "PA5/SPI1_SCK/ADC_IN5/DAC_OUT2/TIM2_CH1_ETR/COMP1_INP", K5 PC4 (io) "PC4/ADC_IN14/LCD_SEG22/COMP1_INP", K8 PD9 (io) "PD9/USART3_RX/LCD_SEG29", K9 PD8 (io) "PD8/USART3_TX/LCD_SEG28", K10 PB15 (io) "PB15/SPI2_MOSI/LCD_SEG15/ADC_IN21/COMP1_INP/TIM11_CH1/RTC_REFIN", K11 PB14 (io) "PB14/SPI2_MISO/USART3_RTS/LCD_SEG14/ADC_IN20/COMP1_INP/TIM9_CH2", K12 PB13 (io) "PB13/SPI2_SCK/USART3_CTS/LCD_SEG13/ADC_IN19/COMP1_INP/TIM9_CH1", L2 PA0-WKUP1 (io) "PA0-WKUP1/PA0/WKUP1/USART2_CTS/ADC_IN0/TIM2_CH1_ETR/COMP1_INP", L3 PA3 (io) "PA3/USART2_RX/ADC_IN3/TIM2_CH4/TIM9_CH2/LCD_SEG2/COMP1_INP", L4 PA6 (io) "PA6/SPI1_MISO/ADC_IN6/TIM3_CH1/LCD_SEG3/TIM10_CH1/COMP1_INP", L5 PC5 (io) "PC5/ADC_IN15/LCD_SEG23/COMP1_INP", L6 PB2 (io) "PB2/BOOT1", L7 PE8 (io) "PE8/ADC_IN23/COMP1_INP", L8 PE10 (io) "PE10/ADC_IN25/TIM2_CH2/COMP1_INP", L9 PE12 (io) "PE12/TIM2_CH4/SPI1_NSS", L10 PB10 (io) "PB10/I2C2_SCL/USART3_TX/TIM2_CH3/LCD_SEG10", L11 PB11 (io) "PB11/I2C2_SDA/USART3_RX/TIM2_CH4/LCD_SEG11", L12 PB12 (io) "PB12/SPI2_NSS/I2C2_SMBA/USART3_CK/LCD_SEG12/ADC_IN18/COMP1_INP/TIM10_CH1", M2 PA1 (io) "PA1/USART2_RTS/ADC_IN1/TIM2_CH2/LCD_SEG0/COMP1_INP", M3 PA4 (io) "PA4/SPI1_NSS/USART2_CK/ADC_IN4/DAC_OUT1/COMP1_INP", M4 PA7 (io) "PA7/SPI1_MOSI/ADC_IN7/TIM3_CH2/LCD_SEG4/TIM11_CH1/COMP1_INP", M5 PB0 (io) "PB0/ADC_IN8/TIM3_CH3/LCD_SEG5/COMP1_INP/VREF_OUT", M6 PB1 (io) "PB1/ADC_IN9/TIM3_CH4/LCD_SEG6/COMP1_INP/VREF_OUT", M7 PE7 (io) "PE7/ADC_IN22/COMP1_INP", M8 PE9 (io) "PE9/ADC_IN24/TIM2_CH1_ETR/COMP1_INP", M9 PE11 (io) "PE11/TIM2_CH3", M10 PE13 (io) "PE13/SPI1_SCK", M11 PE14 (io) "PE14/SPI1_MISO", M12 PE15 (io) "PE15/SPI1_MOSI"
part B pins: C4 VDD_3 (power), D3 VSS_3 (power), E2 VLCD (power), E3 VSS_4 (power), F2 VSS_5 (power), F11 VSS_2 (power), F12 VSS_1 (power), G2 VDD_5 (power), G11 VDD_2 (power), G12 VDD_1 (power), H3 VDD_4 (power), J1 VSSA (power), K1 VREF- (power), L1 VREF+ (power), M1 VDDA (power)

## STM32L152V8T6
designator U?
ARM Cortex-M3 32-bit MCU, 64 KB Flash, 10 KB Internal RAM, 83 I/Os, 100-pin LQFP, -40 to 85 degC, Tray; Manufacturer: STMicroelectronics; PartNumber: STM32L152V8T6; D/A Converter: 2x12-bit (2 Channel); Data E2PROM nom (B): 4096; FLASH Size (Prog) (kB): 64; I/Os (High Current): 83; Internal RAM Size (kB): 10; Operating Frequency(F) (Processor speed) (MHz): 32; Supply Voltage(Vcc) min (V): 1.65; DatasheetVersion: Rev. 8; PackageVersion: Rev. 1, 06/2013; PackageReference: LQFP100; PackageDescription: 100-Pin Low Profile Quad Flat Package, 14 x 14 mm Body, 0.5 mm Pitch; Core: ARM Cortex-M3; Packing: Tray; Mounting Technology: Surface Mount; ComponentLink1Description: Manufacturer URL; ComponentLink1URL: http://www.st.com/web/en/home.html; ComponentLink2Description: Datasheet; ComponentLink2URL: http://www.st.com/st-web-ui/static/active/en/resource/technical/document/datasheet/CD00277537.pdf; ComponentLink3Description: Package Specification; ComponentLink3URL: http://www.st.com/st-web-ui/static/active/en/resource/technical/document/data_brief/DM00071938.pdf
footprint STM-LQFP100_N (Thin QFP, 100-Leads, Body 14x14mm, Pitch 0.5mm, IPC Medium Density)
footprint STM-LQFP100_L (Thin QFP, 100-Leads, Body 14x14mm, Pitch 0.5mm, IPC High Density)
footprint STM-LQFP100_M (Thin QFP, 100-Leads, Body 14x14mm, Pitch 0.5mm, IPC Low Density)
footprint STM-LQFP100_V (Thin QFP, 100-Leads, Body 14x14mm, Pitch 0.5mm, ST Recommended)
part A pins: 1 PE2 (io) "PE2/TRACECLK/LCD_SEG38/TIM3_ETR", 2 PE3 (io) "PE3/TRACED0/LCD_SEG39/TIM3_CH1", 3 PE4 (io) "PE4/TRACED1/TIM3_CH2", 4 PE5 (io) "PE5/TRACED2/TIM9_CH1", 5 PE6-WKUP3 (io) "PE6-WKUP3/PE6/TRACED3/WKUP3/TIM9_CH2", 7 PC13-WKUP2 (io) "PC13-WKUP2/PC13/RTC_TAMP1/RTC_TS/RTC_OUT/WKUP2", 8 PC14-OSC32_IN (io) "PC14-OSC32_IN/PC14/OSC32_IN", 9 PC15-OSC32_OUT (io) "PC15-OSC32_OUT/PC15/OSC32_OUT", 12 PH0-OSC_IN (io) "PH0-OSC_IN/PH0/OSC_IN", 13 PH1-OSC_OUT (io) "PH1-OSC_OUT/PH1/OSC_OUT", 14 NRST (io), 15 PC0 (io) "PC0/ADC_IN10/LCD_SEG18/COMP1_INP", 16 PC1 (io) "PC1/ADC_IN11/LCD_SEG19/COMP1_INP", 17 PC2 (io) "PC2/ADC_IN12/LCD_SEG20/COMP1_INP", 18 PC3 (io) "PC3/ADC_IN13/LCD_SEG21/COMP1_INP", 23 PA0-WKUP1 (io) "PA0-WKUP1/PA0/WKUP1/USART2_CTS/ADC_IN0/TIM2_CH1_ETR/COMP1_INP", 24 PA1 (io) "PA1/USART2_RTS/ADC_IN1/TIM2_CH2/LCD_SEG0/COMP1_INP", 25 PA2 (io) "PA2/USART2_TX/ADC_IN2/TIM2_CH3/TIM9_CH1/LCD_SEG1/COMP1_INP", 26 PA3 (io) "PA3/USART2_RX/ADC_IN3/TIM2_CH4/TIM9_CH2/LCD_SEG2/COMP1_INP", 29 PA4 (io) "PA4/SPI1_NSS/USART2_CK/ADC_IN4/DAC_OUT1/COMP1_INP", 30 PA5 (io) "PA5/SPI1_SCK/ADC_IN5/DAC_OUT2/TIM2_CH1_ETR/COMP1_INP", 31 PA6 (io) "PA6/SPI1_MISO/ADC_IN6/TIM3_CH1/LCD_SEG3/TIM10_CH1/COMP1_INP", 32 PA7 (io) "PA7/SPI1_MOSI/ADC_IN7/TIM3_CH2/LCD_SEG4/TIM11_CH1/COMP1_INP", 33 PC4 (io) "PC4/ADC_IN14/LCD_SEG22/COMP1_INP", 34 PC5 (io) "PC5/ADC_IN15/LCD_SEG23/COMP1_INP", 35 PB0 (io) "PB0/ADC_IN8/TIM3_CH3/LCD_SEG5/COMP1_INP/VREF_OUT", 36 PB1 (io) "PB1/ADC_IN9/TIM3_CH4/LCD_SEG6/COMP1_INP/VREF_OUT", 37 PB2 (io) "PB2/BOOT1", 38 PE7 (io) "PE7/ADC_IN22/COMP1_INP", 39 PE8 (io) "PE8/ADC_IN23/COMP1_INP", 40 PE9 (io) "PE9/ADC_IN24/TIM2_CH1_ETR/COMP1_INP", 41 PE10 (io) "PE10/ADC_IN25/TIM2_CH2/COMP1_INP", 42 PE11 (io) "PE11/TIM2_CH3", 43 PE12 (io) "PE12/TIM2_CH4/SPI1_NSS", 44 PE13 (io) "PE13/SPI1_SCK", 45 PE14 (io) "PE14/SPI1_MISO", 46 PE15 (io) "PE15/SPI1_MOSI", 47 PB10 (io) "PB10/I2C2_SCL/USART3_TX/TIM2_CH3/LCD_SEG10", 48 PB11 (io) "PB11/I2C2_SDA/USART3_RX/TIM2_CH4/LCD_SEG11", 51 PB12 (io) "PB12/SPI2_NSS/I2C2_SMBA/USART3_CK/LCD_SEG12/ADC_IN18/COMP1_INP/TIM10_CH1", 52 PB13 (io) "PB13/SPI2_SCK/USART3_CTS/LCD_SEG13/ADC_IN19/COMP1_INP/TIM9_CH1", 53 PB14 (io) "PB14/SPI2_MISO/USART3_RTS/LCD_SEG14/ADC_IN20/COMP1_INP/TIM9_CH2", 54 PB15 (io) "PB15/SPI2_MOSI/LCD_SEG15/ADC_IN21/COMP1_INP/TIM11_CH1/RTC_REFIN", 55 PD8 (io) "PD8/USART3_TX/LCD_SEG28", 56 PD9 (io) "PD9/USART3_RX/LCD_SEG29", 57 PD10 (io) "PD10/USART3_CK/LCD_SEG30", 58 PD11 (io) "PD11/USART3_CTS/LCD_SEG31", 59 PD12 (io) "PD12/TIM4_CH1/USART3_RTS/LCD_SEG32", 60 PD13 (io) "PD13/TIM4_CH2/LCD_SEG33", 61 PD14 (io) "PD14/TIM4_CH3/LCD_SEG34", 62 PD15 (io) "PD15/TIM4_CH4/LCD_SEG35", 63 PC6 (io) "PC6/TIM3_CH1/LCD_SEG24", 64 PC7 (io) "PC7/TIM3_CH2/LCD_SEG25", 65 PC8 (io) "PC8/TIM3_CH3/LCD_SEG26", 66 PC9 (io) "PC9/TIM3_CH4/LCD_SEG27", 67 PA8 (io) "PA8/USART1_CK/MCO/LCD_COM0", 68 PA9 (io) "PA9/USART1_TX/LCD_COM1", 69 PA10 (io) "PA10/USART1_RX/LCD_COM2", 70 PA11 (io) "PA11/USART1_CTS/USB_DM/SPI1_MISO", 71 PA12 (io) "PA12/USART1_RTS/USB_DP/SPI1_MOSI", 72 PA13 (io) "PA13/JTMS/SWDAT", 73 PH2 (io), 76 PA14 (io) "PA14/JTCK/SWCLK", 77 PA15 (io) "PA15/JTDI/TIM2_CH1_ETR/SPI1_NSS/LCD_SEG17", 78 PC10 (io) "PC10/USART3_TX/LCD_SEG28/LCD_SEG40/LCD_COM4", 79 PC11 (io) "PC11/USART3_RX/LCD_SEG29/LCD_SEG41/LCD_COM5", 80 PC12 (io) "PC12/USART3_CK/LCD_SEG30/LCD_SEG42/LCD_COM6", 81 PD0 (io) "PD0/SPI2_NSS/TIM9_CH1", 82 PD1 (io) "PD1/SPI2_SCK", 83 PD2 (io) "PD2/TIM3_ETR/LCD_SEG31/LCD_SEG43/LCD_COM7", 84 PD3 (io) "PD3/USART2_CTS/SPI2_MISO", 85 PD4 (io) "PD4/USART2_RTS/SPI2_MOSI", 86 PD5 (io) "PD5/USART2_TX", 87 PD6 (io) "PD6/USART2_RX", 88 PD7 (io) "PD7/USART2_CK/TIM9_CH2", 89 PB3 (io) "PB3/JTDO/TIM2_CH2/SPI1_SCK/COMP2_INM/LCD_SEG7", 90 PB4 (io) "PB4/NJTRST/TIM3_CH1/SPI1_MISO/COMP2_INP/LCD_SEG8", 91 PB5 (io) "PB5/I2C1_SMBA/TIM3_CH2/SPI1_MOSI/COMP2_INP/LCD_SEG9", 92 PB6 (io) "PB6/I2C1_SCL/TIM4_CH1/USART1_TX", 93 PB7 (io) "PB7/I2C1_SDA/TIM4_CH2/USART1_RX/PVD_IN", 94 BOOT0 (in), 95 PB8 (io) "PB8/TIM4_CH3/I2C1_SCL/LCD_SEG16/TIM10_CH1", 96 PB9 (io) "PB9/TIM4_CH4/I2C1_SDA/LCD_COM3/TIM11_CH1", 97 PE0 (io) "PE0/TIM4_ETR/LCD_SEG36/TIM10_CH1", 98 PE1 (io) "PE1/LCD_SEG37/TIM11_CH1"
part B pins: 6 VLCD (power), 10 VSS_5 (power), 11 VDD_5 (power), 19 VSSA (power), 20 VREF- (power), 21 VREF+ (power), 22 VDDA (power), 27 VSS_4 (power), 28 VDD_4 (power), 49 VSS_1 (power), 50 VDD_1 (power), 74 VSS_2 (power), 75 VDD_2 (power), 99 VSS_3 (power), 100 VDD_3 (power)

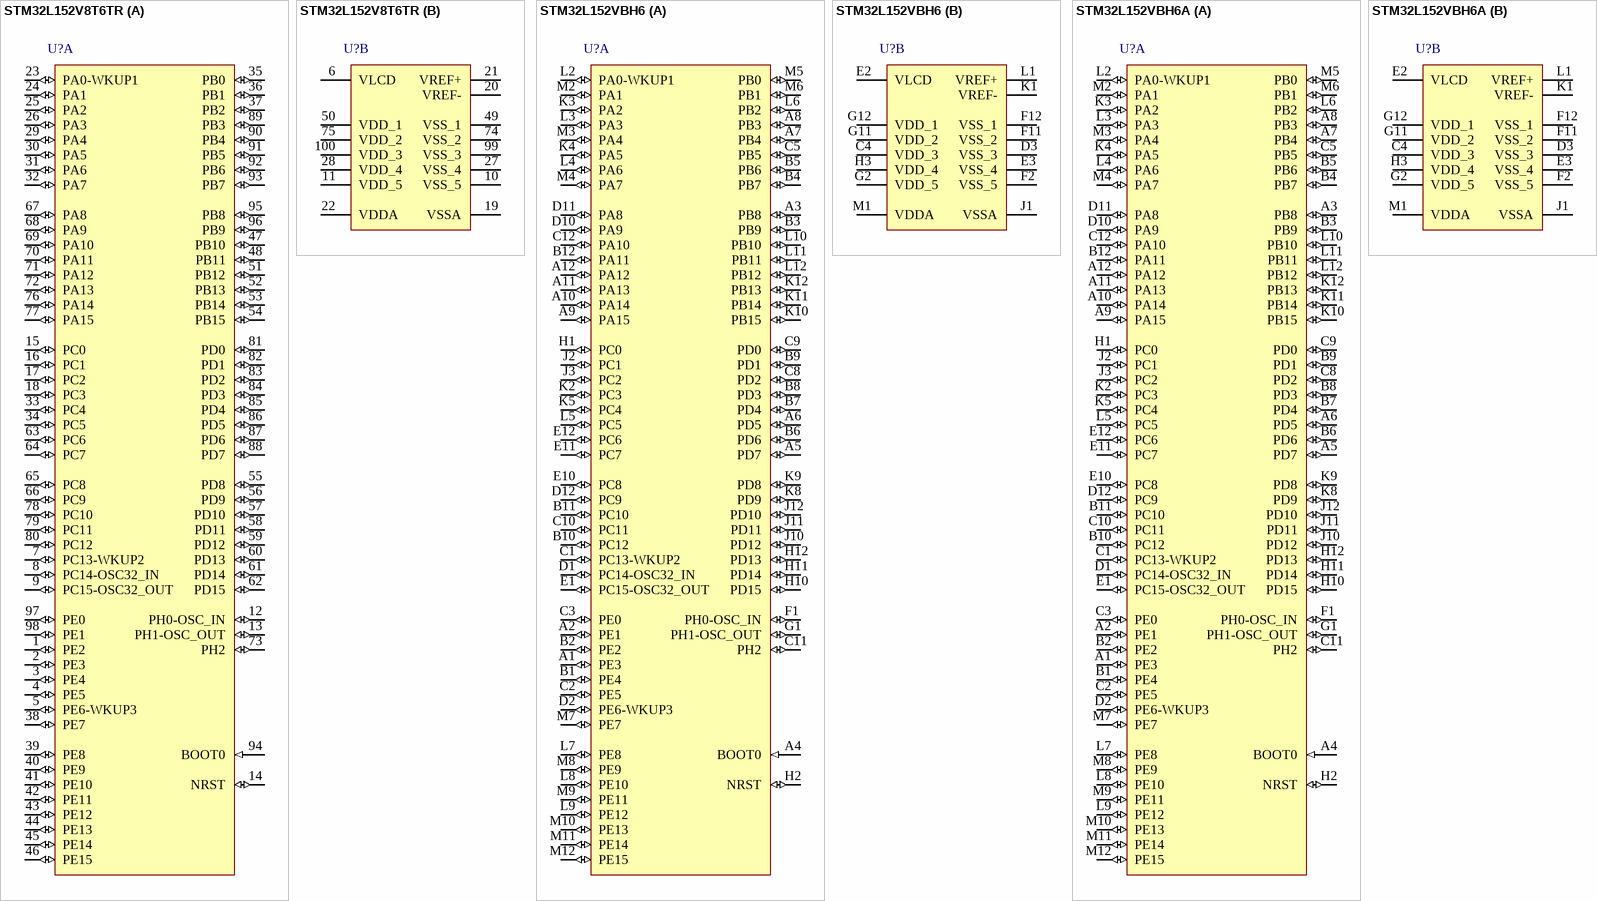
[diagram p19: symbols STM32L152V8T6TR to STM32L152VBH6A]

## STM32L152V8T6TR
designator U?
ARM Cortex-M3 32-bit MCU, 64 KB Flash, 10 KB Internal RAM, 83 I/Os, 100-pin LQFP, -40 to 85 degC, Tape and Reel; Manufacturer: STMicroelectronics; PartNumber: STM32L152V8T6TR; D/A Converter: 2x12-bit (2 Channel); Data E2PROM nom (B): 4096; FLASH Size (Prog) (kB): 64; I/Os (High Current): 83; Internal RAM Size (kB): 10; Operating Frequency(F) (Processor speed) (MHz): 32; Supply Voltage(Vcc) min (V): 1.65; DatasheetVersion: Rev. 8; PackageVersion: Rev. 1, 06/2013; PackageReference: LQFP100; PackageDescription: 100-Pin Low Profile Quad Flat Package, 14 x 14 mm Body, 0.5 mm Pitch; Core: ARM Cortex-M3; Packing: Tape and Reel; Mounting Technology: Surface Mount; ComponentLink1Description: Manufacturer URL; ComponentLink1URL: http://www.st.com/web/en/home.html; ComponentLink2Description: Datasheet; ComponentLink2URL: http://www.st.com/st-web-ui/static/active/en/resource/technical/document/datasheet/CD00277537.pdf; ComponentLink3Description: Package Specification; ComponentLink3URL: http://www.st.com/st-web-ui/static/active/en/resource/technical/document/data_brief/DM00071938.pdf
footprint STM-LQFP100_N (Thin QFP, 100-Leads, Body 14x14mm, Pitch 0.5mm, IPC Medium Density)
footprint STM-LQFP100_L (Thin QFP, 100-Leads, Body 14x14mm, Pitch 0.5mm, IPC High Density)
footprint STM-LQFP100_M (Thin QFP, 100-Leads, Body 14x14mm, Pitch 0.5mm, IPC Low Density)
footprint STM-LQFP100_V (Thin QFP, 100-Leads, Body 14x14mm, Pitch 0.5mm, ST Recommended)
part A pins: 1 PE2 (io) "PE2/TRACECLK/LCD_SEG38/TIM3_ETR", 2 PE3 (io) "PE3/TRACED0/LCD_SEG39/TIM3_CH1", 3 PE4 (io) "PE4/TRACED1/TIM3_CH2", 4 PE5 (io) "PE5/TRACED2/TIM9_CH1", 5 PE6-WKUP3 (io) "PE6-WKUP3/PE6/TRACED3/WKUP3/TIM9_CH2", 7 PC13-WKUP2 (io) "PC13-WKUP2/PC13/RTC_TAMP1/RTC_TS/RTC_OUT/WKUP2", 8 PC14-OSC32_IN (io) "PC14-OSC32_IN/PC14/OSC32_IN", 9 PC15-OSC32_OUT (io) "PC15-OSC32_OUT/PC15/OSC32_OUT", 12 PH0-OSC_IN (io) "PH0-OSC_IN/PH0/OSC_IN", 13 PH1-OSC_OUT (io) "PH1-OSC_OUT/PH1/OSC_OUT", 14 NRST (io), 15 PC0 (io) "PC0/ADC_IN10/LCD_SEG18/COMP1_INP", 16 PC1 (io) "PC1/ADC_IN11/LCD_SEG19/COMP1_INP", 17 PC2 (io) "PC2/ADC_IN12/LCD_SEG20/COMP1_INP", 18 PC3 (io) "PC3/ADC_IN13/LCD_SEG21/COMP1_INP", 23 PA0-WKUP1 (io) "PA0-WKUP1/PA0/WKUP1/USART2_CTS/ADC_IN0/TIM2_CH1_ETR/COMP1_INP", 24 PA1 (io) "PA1/USART2_RTS/ADC_IN1/TIM2_CH2/LCD_SEG0/COMP1_INP", 25 PA2 (io) "PA2/USART2_TX/ADC_IN2/TIM2_CH3/TIM9_CH1/LCD_SEG1/COMP1_INP", 26 PA3 (io) "PA3/USART2_RX/ADC_IN3/TIM2_CH4/TIM9_CH2/LCD_SEG2/COMP1_INP", 29 PA4 (io) "PA4/SPI1_NSS/USART2_CK/ADC_IN4/DAC_OUT1/COMP1_INP", 30 PA5 (io) "PA5/SPI1_SCK/ADC_IN5/DAC_OUT2/TIM2_CH1_ETR/COMP1_INP", 31 PA6 (io) "PA6/SPI1_MISO/ADC_IN6/TIM3_CH1/LCD_SEG3/TIM10_CH1/COMP1_INP", 32 PA7 (io) "PA7/SPI1_MOSI/ADC_IN7/TIM3_CH2/LCD_SEG4/TIM11_CH1/COMP1_INP", 33 PC4 (io) "PC4/ADC_IN14/LCD_SEG22/COMP1_INP", 34 PC5 (io) "PC5/ADC_IN15/LCD_SEG23/COMP1_INP", 35 PB0 (io) "PB0/ADC_IN8/TIM3_CH3/LCD_SEG5/COMP1_INP/VREF_OUT", 36 PB1 (io) "PB1/ADC_IN9/TIM3_CH4/LCD_SEG6/COMP1_INP/VREF_OUT", 37 PB2 (io) "PB2/BOOT1", 38 PE7 (io) "PE7/ADC_IN22/COMP1_INP", 39 PE8 (io) "PE8/ADC_IN23/COMP1_INP", 40 PE9 (io) "PE9/ADC_IN24/TIM2_CH1_ETR/COMP1_INP", 41 PE10 (io) "PE10/ADC_IN25/TIM2_CH2/COMP1_INP", 42 PE11 (io) "PE11/TIM2_CH3", 43 PE12 (io) "PE12/TIM2_CH4/SPI1_NSS", 44 PE13 (io) "PE13/SPI1_SCK", 45 PE14 (io) "PE14/SPI1_MISO", 46 PE15 (io) "PE15/SPI1_MOSI", 47 PB10 (io) "PB10/I2C2_SCL/USART3_TX/TIM2_CH3/LCD_SEG10", 48 PB11 (io) "PB11/I2C2_SDA/USART3_RX/TIM2_CH4/LCD_SEG11", 51 PB12 (io) "PB12/SPI2_NSS/I2C2_SMBA/USART3_CK/LCD_SEG12/ADC_IN18/COMP1_INP/TIM10_CH1", 52 PB13 (io) "PB13/SPI2_SCK/USART3_CTS/LCD_SEG13/ADC_IN19/COMP1_INP/TIM9_CH1", 53 PB14 (io) "PB14/SPI2_MISO/USART3_RTS/LCD_SEG14/ADC_IN20/COMP1_INP/TIM9_CH2", 54 PB15 (io) "PB15/SPI2_MOSI/LCD_SEG15/ADC_IN21/COMP1_INP/TIM11_CH1/RTC_REFIN", 55 PD8 (io) "PD8/USART3_TX/LCD_SEG28", 56 PD9 (io) "PD9/USART3_RX/LCD_SEG29", 57 PD10 (io) "PD10/USART3_CK/LCD_SEG30", 58 PD11 (io) "PD11/USART3_CTS/LCD_SEG31", 59 PD12 (io) "PD12/TIM4_CH1/USART3_RTS/LCD_SEG32", 60 PD13 (io) "PD13/TIM4_CH2/LCD_SEG33", 61 PD14 (io) "PD14/TIM4_CH3/LCD_SEG34", 62 PD15 (io) "PD15/TIM4_CH4/LCD_SEG35", 63 PC6 (io) "PC6/TIM3_CH1/LCD_SEG24", 64 PC7 (io) "PC7/TIM3_CH2/LCD_SEG25", 65 PC8 (io) "PC8/TIM3_CH3/LCD_SEG26", 66 PC9 (io) "PC9/TIM3_CH4/LCD_SEG27", 67 PA8 (io) "PA8/USART1_CK/MCO/LCD_COM0", 68 PA9 (io) "PA9/USART1_TX/LCD_COM1", 69 PA10 (io) "PA10/USART1_RX/LCD_COM2", 70 PA11 (io) "PA11/USART1_CTS/USB_DM/SPI1_MISO", 71 PA12 (io) "PA12/USART1_RTS/USB_DP/SPI1_MOSI", 72 PA13 (io) "PA13/JTMS/SWDAT", 73 PH2 (io), 76 PA14 (io) "PA14/JTCK/SWCLK", 77 PA15 (io) "PA15/JTDI/TIM2_CH1_ETR/SPI1_NSS/LCD_SEG17", 78 PC10 (io) "PC10/USART3_TX/LCD_SEG28/LCD_SEG40/LCD_COM4", 79 PC11 (io) "PC11/USART3_RX/LCD_SEG29/LCD_SEG41/LCD_COM5", 80 PC12 (io) "PC12/USART3_CK/LCD_SEG30/LCD_SEG42/LCD_COM6", 81 PD0 (io) "PD0/SPI2_NSS/TIM9_CH1", 82 PD1 (io) "PD1/SPI2_SCK", 83 PD2 (io) "PD2/TIM3_ETR/LCD_SEG31/LCD_SEG43/LCD_COM7", 84 PD3 (io) "PD3/USART2_CTS/SPI2_MISO", 85 PD4 (io) "PD4/USART2_RTS/SPI2_MOSI", 86 PD5 (io) "PD5/USART2_TX", 87 PD6 (io) "PD6/USART2_RX", 88 PD7 (io) "PD7/USART2_CK/TIM9_CH2", 89 PB3 (io) "PB3/JTDO/TIM2_CH2/SPI1_SCK/COMP2_INM/LCD_SEG7", 90 PB4 (io) "PB4/NJTRST/TIM3_CH1/SPI1_MISO/COMP2_INP/LCD_SEG8", 91 PB5 (io) "PB5/I2C1_SMBA/TIM3_CH2/SPI1_MOSI/COMP2_INP/LCD_SEG9", 92 PB6 (io) "PB6/I2C1_SCL/TIM4_CH1/USART1_TX", 93 PB7 (io) "PB7/I2C1_SDA/TIM4_CH2/USART1_RX/PVD_IN", 94 BOOT0 (in), 95 PB8 (io) "PB8/TIM4_CH3/I2C1_SCL/LCD_SEG16/TIM10_CH1", 96 PB9 (io) "PB9/TIM4_CH4/I2C1_SDA/LCD_COM3/TIM11_CH1", 97 PE0 (io) "PE0/TIM4_ETR/LCD_SEG36/TIM10_CH1", 98 PE1 (io) "PE1/LCD_SEG37/TIM11_CH1"
part B pins: 6 VLCD (power), 10 VSS_5 (power), 11 VDD_5 (power), 19 VSSA (power), 20 VREF- (power), 21 VREF+ (power), 22 VDDA (power), 27 VSS_4 (power), 28 VDD_4 (power), 49 VSS_1 (power), 50 VDD_1 (power), 74 VSS_2 (power), 75 VDD_2 (power), 99 VSS_3 (power), 100 VDD_3 (power)

## STM32L152VBH6
designator U?
ARM Cortex-M3 32-bit MCU, 128 KB Flash, 16 KB Internal RAM, 83 I/Os, 100-pin UFBGA, -40 to 85 degC, Tray; Manufacturer: STMicroelectronics; PartNumber: STM32L152VBH6; D/A Converter: 2x12-bit (2 Channel); Data E2PROM nom (B): 4096; FLASH Size (Prog) (kB): 128; I/Os (High Current): 83; Internal RAM Size (kB): 16; Operating Frequency(F) (Processor speed) (MHz): 32; Supply Voltage(Vcc) min (V): 1.65; DatasheetVersion: Rev. 8; PackageVersion: Rev. 8, 02/2013; PackageReference: UFBGA100; PackageDescription: 100-Ball Ultra Thin Fine Pitch Ball Grid Array, 7 x 7 x 0.6 mm Body, 0.5 mm Pitch; Core: ARM Cortex-M3; Packing: Tray; Mounting Technology: Surface Mount; ComponentLink1Description: Manufacturer URL; ComponentLink1URL: http://www.st.com/web/en/home.html; ComponentLink2Description: Datasheet; ComponentLink2URL: http://www.st.com/st-web-ui/static/active/en/resource/technical/document/datasheet/CD00277537.pdf; ComponentLink3Description: Package Specification; ComponentLink3URL: http://www.st.com/st-web-ui/static/active/en/resource/technical/document/datasheet/CD00277537.pdf
footprint STM-UFBGA100 (BGA, 100-Balls, Body 7x7mm, Pitch 0.5mm)
part A pins: A1 PE3 (io) "PE3/TRACED0/LCD_SEG39/TIM3_CH1", A2 PE1 (io) "PE1/LCD_SEG37/TIM11_CH1", A3 PB8 (io) "PB8/TIM4_CH3/I2C1_SCL/LCD_SEG16/TIM10_CH1", A4 BOOT0 (in), A5 PD7 (io) "PD7/USART2_CK/TIM9_CH2", A6 PD5 (io) "PD5/USART2_TX", A7 PB4 (io) "PB4/NJTRST/TIM3_CH1/SPI1_MISO/COMP2_INP/LCD_SEG8", A8 PB3 (io) "PB3/JTDO/TIM2_CH2/SPI1_SCK/COMP2_INM/LCD_SEG7", A9 PA15 (io) "PA15/JTDI/TIM2_CH1_ETR/SPI1_NSS/LCD_SEG17", A10 PA14 (io) "PA14/JTCK/SWCLK", A11 PA13 (io) "PA13/JTMS/SWDAT", A12 PA12 (io) "PA12/USART1_RTS/USB_DP/SPI1_MOSI", B1 PE4 (io) "PE4/TRACED1/TIM3_CH2", B2 PE2 (io) "PE2/TRACECLK/LCD_SEG38/TIM3_ETR", B3 PB9 (io) "PB9/TIM4_CH4/I2C1_SDA/LCD_COM3/TIM11_CH1", B4 PB7 (io) "PB7/I2C1_SDA/TIM4_CH2/USART1_RX/PVD_IN", B5 PB6 (io) "PB6/I2C1_SCL/TIM4_CH1/USART1_TX", B6 PD6 (io) "PD6/USART2_RX", B7 PD4 (io) "PD4/USART2_RTS/SPI2_MOSI", B8 PD3 (io) "PD3/USART2_CTS/SPI2_MISO", B9 PD1 (io) "PD1/SPI2_SCK", B10 PC12 (io) "PC12/USART3_CK/LCD_SEG30/LCD_SEG42/LCD_COM6", B11 PC10 (io) "PC10/USART3_TX/LCD_SEG28/LCD_SEG40/LCD_COM4", B12 PA11 (io) "PA11/USART1_CTS/USB_DM/SPI1_MISO", C1 PC13-WKUP2 (io) "PC13-WKUP2/PC13/RTC_TAMP1/RTC_TS/RTC_OUT/WKUP2", C2 PE5 (io) "PE5/TRACED2/TIM9_CH1", C3 PE0 (io) "PE0/TIM4_ETR/LCD_SEG36/TIM10_CH1", C5 PB5 (io) "PB5/I2C1_SMBA/TIM3_CH2/SPI1_MOSI/COMP2_INP/LCD_SEG9", C8 PD2 (io) "PD2/TIM3_ETR/LCD_SEG31/LCD_SEG43/LCD_COM7", C9 PD0 (io) "PD0/SPI2_NSS/TIM9_CH1", C10 PC11 (io) "PC11/USART3_RX/LCD_SEG29/LCD_SEG41/LCD_COM5", C11 PH2 (io), C12 PA10 (io) "PA10/USART1_RX/LCD_COM2", D1 PC14-OSC32_IN (io) "PC14-OSC32_IN/PC14/OSC32_IN", D2 PE6-WKUP3 (io) "PE6-WKUP3/PE6/TRACED3/WKUP3/TIM9_CH2", D10 PA9 (io) "PA9/USART1_TX/LCD_COM1", D11 PA8 (io) "PA8/USART1_CK/MCO/LCD_COM0", D12 PC9 (io) "PC9/TIM3_CH4/LCD_SEG27", E1 PC15-OSC32_OUT (io) "PC15-OSC32_OUT/PC15/OSC32_OUT", E10 PC8 (io) "PC8/TIM3_CH3/LCD_SEG26", E11 PC7 (io) "PC7/TIM3_CH2/LCD_SEG25", E12 PC6 (io) "PC6/TIM3_CH1/LCD_SEG24", F1 PH0-OSC_IN (io) "PH0-OSC_IN/PH0/OSC_IN", G1 PH1-OSC_OUT (io) "PH1-OSC_OUT/PH1/OSC_OUT", H1 PC0 (io) "PC0/ADC_IN10/LCD_SEG18/COMP1_INP", H2 NRST (io), H10 PD15 (io) "PD15/TIM4_CH4/LCD_SEG35", H11 PD14 (io) "PD14/TIM4_CH3/LCD_SEG34", H12 PD13 (io) "PD13/TIM4_CH2/LCD_SEG33", J2 PC1 (io) "PC1/ADC_IN11/LCD_SEG19/COMP1_INP", J3 PC2 (io) "PC2/ADC_IN12/LCD_SEG20/COMP1_INP", J10 PD12 (io) "PD12/TIM4_CH1/USART3_RTS/LCD_SEG32", J11 PD11 (io) "PD11/USART3_CTS/LCD_SEG31", J12 PD10 (io) "PD10/USART3_CK/LCD_SEG30", K2 PC3 (io) "PC3/ADC_IN13/LCD_SEG21/COMP1_INP", K3 PA2 (io) "PA2/USART2_TX/ADC_IN2/TIM2_CH3/TIM9_CH1/LCD_SEG1/COMP1_INP", K4 PA5 (io) "PA5/SPI1_SCK/ADC_IN5/DAC_OUT2/TIM2_CH1_ETR/COMP1_INP", K5 PC4 (io) "PC4/ADC_IN14/LCD_SEG22/COMP1_INP", K8 PD9 (io) "PD9/USART3_RX/LCD_SEG29", K9 PD8 (io) "PD8/USART3_TX/LCD_SEG28", K10 PB15 (io) "PB15/SPI2_MOSI/LCD_SEG15/ADC_IN21/COMP1_INP/TIM11_CH1/RTC_REFIN", K11 PB14 (io) "PB14/SPI2_MISO/USART3_RTS/LCD_SEG14/ADC_IN20/COMP1_INP/TIM9_CH2", K12 PB13 (io) "PB13/SPI2_SCK/USART3_CTS/LCD_SEG13/ADC_IN19/COMP1_INP/TIM9_CH1", L2 PA0-WKUP1 (io) "PA0-WKUP1/PA0/WKUP1/USART2_CTS/ADC_IN0/TIM2_CH1_ETR/COMP1_INP", L3 PA3 (io) "PA3/USART2_RX/ADC_IN3/TIM2_CH4/TIM9_CH2/LCD_SEG2/COMP1_INP", L4 PA6 (io) "PA6/SPI1_MISO/ADC_IN6/TIM3_CH1/LCD_SEG3/TIM10_CH1/COMP1_INP", L5 PC5 (io) "PC5/ADC_IN15/LCD_SEG23/COMP1_INP", L6 PB2 (io) "PB2/BOOT1", L7 PE8 (io) "PE8/ADC_IN23/COMP1_INP", L8 PE10 (io) "PE10/ADC_IN25/TIM2_CH2/COMP1_INP", L9 PE12 (io) "PE12/TIM2_CH4/SPI1_NSS", L10 PB10 (io) "PB10/I2C2_SCL/USART3_TX/TIM2_CH3/LCD_SEG10", L11 PB11 (io) "PB11/I2C2_SDA/USART3_RX/TIM2_CH4/LCD_SEG11", L12 PB12 (io) "PB12/SPI2_NSS/I2C2_SMBA/USART3_CK/LCD_SEG12/ADC_IN18/COMP1_INP/TIM10_CH1", M2 PA1 (io) "PA1/USART2_RTS/ADC_IN1/TIM2_CH2/LCD_SEG0/COMP1_INP", M3 PA4 (io) "PA4/SPI1_NSS/USART2_CK/ADC_IN4/DAC_OUT1/COMP1_INP", M4 PA7 (io) "PA7/SPI1_MOSI/ADC_IN7/TIM3_CH2/LCD_SEG4/TIM11_CH1/COMP1_INP", M5 PB0 (io) "PB0/ADC_IN8/TIM3_CH3/LCD_SEG5/COMP1_INP/VREF_OUT", M6 PB1 (io) "PB1/ADC_IN9/TIM3_CH4/LCD_SEG6/COMP1_INP/VREF_OUT", M7 PE7 (io) "PE7/ADC_IN22/COMP1_INP", M8 PE9 (io) "PE9/ADC_IN24/TIM2_CH1_ETR/COMP1_INP", M9 PE11 (io) "PE11/TIM2_CH3", M10 PE13 (io) "PE13/SPI1_SCK", M11 PE14 (io) "PE14/SPI1_MISO", M12 PE15 (io) "PE15/SPI1_MOSI"
part B pins: C4 VDD_3 (power), D3 VSS_3 (power), E2 VLCD (power), E3 VSS_4 (power), F2 VSS_5 (power), F11 VSS_2 (power), F12 VSS_1 (power), G2 VDD_5 (power), G11 VDD_2 (power), G12 VDD_1 (power), H3 VDD_4 (power), J1 VSSA (power), K1 VREF- (power), L1 VREF+ (power), M1 VDDA (power)

## STM32L152VBH6A
designator U?
ARM Cortex-M3 32-bit MCU, 128 KB Flash, 16 KB Internal RAM, 83 I/Os, 100-pin UFBGA, -40 to 85 degC, Tray; Manufacturer: STMicroelectronics; PartNumber: STM32L152VBH6A; D/A Converter: 2x12-bit (2 Channel); Data E2PROM nom (B): 4096; FLASH Size (Prog) (kB): 128; I/Os (High Current): 83; Internal RAM Size (kB): 16; Operating Frequency(F) (Processor speed) (MHz): 32; Supply Voltage(Vcc) min (V): 1.65; DatasheetVersion: Rev. 8; PackageVersion: Rev. 8, 02/2013; PackageReference: UFBGA100; PackageDescription: 100-Ball Ultra Thin Fine Pitch Ball Grid Array, 7 x 7 x 0.6 mm Body, 0.5 mm Pitch; Core: ARM Cortex-M3; Packing: Tray; Mounting Technology: Surface Mount; ComponentLink1Description: Manufacturer URL; ComponentLink1URL: http://www.st.com/web/en/home.html; ComponentLink2Description: Datasheet; ComponentLink2URL: http://www.st.com/st-web-ui/static/active/en/resource/technical/document/datasheet/CD00277537.pdf; ComponentLink3Description: Package Specification; ComponentLink3URL: http://www.st.com/st-web-ui/static/active/en/resource/technical/document/datasheet/CD00277537.pdf
footprint STM-UFBGA100 (BGA, 100-Balls, Body 7x7mm, Pitch 0.5mm)
part A pins: A1 PE3 (io) "PE3/TRACED0/LCD_SEG39/TIM3_CH1", A2 PE1 (io) "PE1/LCD_SEG37/TIM11_CH1", A3 PB8 (io) "PB8/TIM4_CH3/I2C1_SCL/LCD_SEG16/TIM10_CH1", A4 BOOT0 (in), A5 PD7 (io) "PD7/USART2_CK/TIM9_CH2", A6 PD5 (io) "PD5/USART2_TX", A7 PB4 (io) "PB4/NJTRST/TIM3_CH1/SPI1_MISO/COMP2_INP/LCD_SEG8", A8 PB3 (io) "PB3/JTDO/TIM2_CH2/SPI1_SCK/COMP2_INM/LCD_SEG7", A9 PA15 (io) "PA15/JTDI/TIM2_CH1_ETR/SPI1_NSS/LCD_SEG17", A10 PA14 (io) "PA14/JTCK/SWCLK", A11 PA13 (io) "PA13/JTMS/SWDAT", A12 PA12 (io) "PA12/USART1_RTS/USB_DP/SPI1_MOSI", B1 PE4 (io) "PE4/TRACED1/TIM3_CH2", B2 PE2 (io) "PE2/TRACECLK/LCD_SEG38/TIM3_ETR", B3 PB9 (io) "PB9/TIM4_CH4/I2C1_SDA/LCD_COM3/TIM11_CH1", B4 PB7 (io) "PB7/I2C1_SDA/TIM4_CH2/USART1_RX/PVD_IN", B5 PB6 (io) "PB6/I2C1_SCL/TIM4_CH1/USART1_TX", B6 PD6 (io) "PD6/USART2_RX", B7 PD4 (io) "PD4/USART2_RTS/SPI2_MOSI", B8 PD3 (io) "PD3/USART2_CTS/SPI2_MISO", B9 PD1 (io) "PD1/SPI2_SCK", B10 PC12 (io) "PC12/USART3_CK/LCD_SEG30/LCD_SEG42/LCD_COM6", B11 PC10 (io) "PC10/USART3_TX/LCD_SEG28/LCD_SEG40/LCD_COM4", B12 PA11 (io) "PA11/USART1_CTS/USB_DM/SPI1_MISO", C1 PC13-WKUP2 (io) "PC13-WKUP2/PC13/RTC_TAMP1/RTC_TS/RTC_OUT/WKUP2", C2 PE5 (io) "PE5/TRACED2/TIM9_CH1", C3 PE0 (io) "PE0/TIM4_ETR/LCD_SEG36/TIM10_CH1", C5 PB5 (io) "PB5/I2C1_SMBA/TIM3_CH2/SPI1_MOSI/COMP2_INP/LCD_SEG9", C8 PD2 (io) "PD2/TIM3_ETR/LCD_SEG31/LCD_SEG43/LCD_COM7", C9 PD0 (io) "PD0/SPI2_NSS/TIM9_CH1", C10 PC11 (io) "PC11/USART3_RX/LCD_SEG29/LCD_SEG41/LCD_COM5", C11 PH2 (io), C12 PA10 (io) "PA10/USART1_RX/LCD_COM2", D1 PC14-OSC32_IN (io) "PC14-OSC32_IN/PC14/OSC32_IN", D2 PE6-WKUP3 (io) "PE6-WKUP3/PE6/TRACED3/WKUP3/TIM9_CH2", D10 PA9 (io) "PA9/USART1_TX/LCD_COM1", D11 PA8 (io) "PA8/USART1_CK/MCO/LCD_COM0", D12 PC9 (io) "PC9/TIM3_CH4/LCD_SEG27", E1 PC15-OSC32_OUT (io) "PC15-OSC32_OUT/PC15/OSC32_OUT", E10 PC8 (io) "PC8/TIM3_CH3/LCD_SEG26", E11 PC7 (io) "PC7/TIM3_CH2/LCD_SEG25", E12 PC6 (io) "PC6/TIM3_CH1/LCD_SEG24", F1 PH0-OSC_IN (io) "PH0-OSC_IN/PH0/OSC_IN", G1 PH1-OSC_OUT (io) "PH1-OSC_OUT/PH1/OSC_OUT", H1 PC0 (io) "PC0/ADC_IN10/LCD_SEG18/COMP1_INP", H2 NRST (io), H10 PD15 (io) "PD15/TIM4_CH4/LCD_SEG35", H11 PD14 (io) "PD14/TIM4_CH3/LCD_SEG34", H12 PD13 (io) "PD13/TIM4_CH2/LCD_SEG33", J2 PC1 (io) "PC1/ADC_IN11/LCD_SEG19/COMP1_INP", J3 PC2 (io) "PC2/ADC_IN12/LCD_SEG20/COMP1_INP", J10 PD12 (io) "PD12/TIM4_CH1/USART3_RTS/LCD_SEG32", J11 PD11 (io) "PD11/USART3_CTS/LCD_SEG31", J12 PD10 (io) "PD10/USART3_CK/LCD_SEG30", K2 PC3 (io) "PC3/ADC_IN13/LCD_SEG21/COMP1_INP", K3 PA2 (io) "PA2/USART2_TX/ADC_IN2/TIM2_CH3/TIM9_CH1/LCD_SEG1/COMP1_INP", K4 PA5 (io) "PA5/SPI1_SCK/ADC_IN5/DAC_OUT2/TIM2_CH1_ETR/COMP1_INP", K5 PC4 (io) "PC4/ADC_IN14/LCD_SEG22/COMP1_INP", K8 PD9 (io) "PD9/USART3_RX/LCD_SEG29", K9 PD8 (io) "PD8/USART3_TX/LCD_SEG28", K10 PB15 (io) "PB15/SPI2_MOSI/LCD_SEG15/ADC_IN21/COMP1_INP/TIM11_CH1/RTC_REFIN", K11 PB14 (io) "PB14/SPI2_MISO/USART3_RTS/LCD_SEG14/ADC_IN20/COMP1_INP/TIM9_CH2", K12 PB13 (io) "PB13/SPI2_SCK/USART3_CTS/LCD_SEG13/ADC_IN19/COMP1_INP/TIM9_CH1", L2 PA0-WKUP1 (io) "PA0-WKUP1/PA0/WKUP1/USART2_CTS/ADC_IN0/TIM2_CH1_ETR/COMP1_INP", L3 PA3 (io) "PA3/USART2_RX/ADC_IN3/TIM2_CH4/TIM9_CH2/LCD_SEG2/COMP1_INP", L4 PA6 (io) "PA6/SPI1_MISO/ADC_IN6/TIM3_CH1/LCD_SEG3/TIM10_CH1/COMP1_INP", L5 PC5 (io) "PC5/ADC_IN15/LCD_SEG23/COMP1_INP", L6 PB2 (io) "PB2/BOOT1", L7 PE8 (io) "PE8/ADC_IN23/COMP1_INP", L8 PE10 (io) "PE10/ADC_IN25/TIM2_CH2/COMP1_INP", L9 PE12 (io) "PE12/TIM2_CH4/SPI1_NSS", L10 PB10 (io) "PB10/I2C2_SCL/USART3_TX/TIM2_CH3/LCD_SEG10", L11 PB11 (io) "PB11/I2C2_SDA/USART3_RX/TIM2_CH4/LCD_SEG11", L12 PB12 (io) "PB12/SPI2_NSS/I2C2_SMBA/USART3_CK/LCD_SEG12/ADC_IN18/COMP1_INP/TIM10_CH1", M2 PA1 (io) "PA1/USART2_RTS/ADC_IN1/TIM2_CH2/LCD_SEG0/COMP1_INP", M3 PA4 (io) "PA4/SPI1_NSS/USART2_CK/ADC_IN4/DAC_OUT1/COMP1_INP", M4 PA7 (io) "PA7/SPI1_MOSI/ADC_IN7/TIM3_CH2/LCD_SEG4/TIM11_CH1/COMP1_INP", M5 PB0 (io) "PB0/ADC_IN8/TIM3_CH3/LCD_SEG5/COMP1_INP/VREF_OUT", M6 PB1 (io) "PB1/ADC_IN9/TIM3_CH4/LCD_SEG6/COMP1_INP/VREF_OUT", M7 PE7 (io) "PE7/ADC_IN22/COMP1_INP", M8 PE9 (io) "PE9/ADC_IN24/TIM2_CH1_ETR/COMP1_INP", M9 PE11 (io) "PE11/TIM2_CH3", M10 PE13 (io) "PE13/SPI1_SCK", M11 PE14 (io) "PE14/SPI1_MISO", M12 PE15 (io) "PE15/SPI1_MOSI"
part B pins: C4 VDD_3 (power), D3 VSS_3 (power), E2 VLCD (power), E3 VSS_4 (power), F2 VSS_5 (power), F11 VSS_2 (power), F12 VSS_1 (power), G2 VDD_5 (power), G11 VDD_2 (power), G12 VDD_1 (power), H3 VDD_4 (power), J1 VSSA (power), K1 VREF- (power), L1 VREF+ (power), M1 VDDA (power)

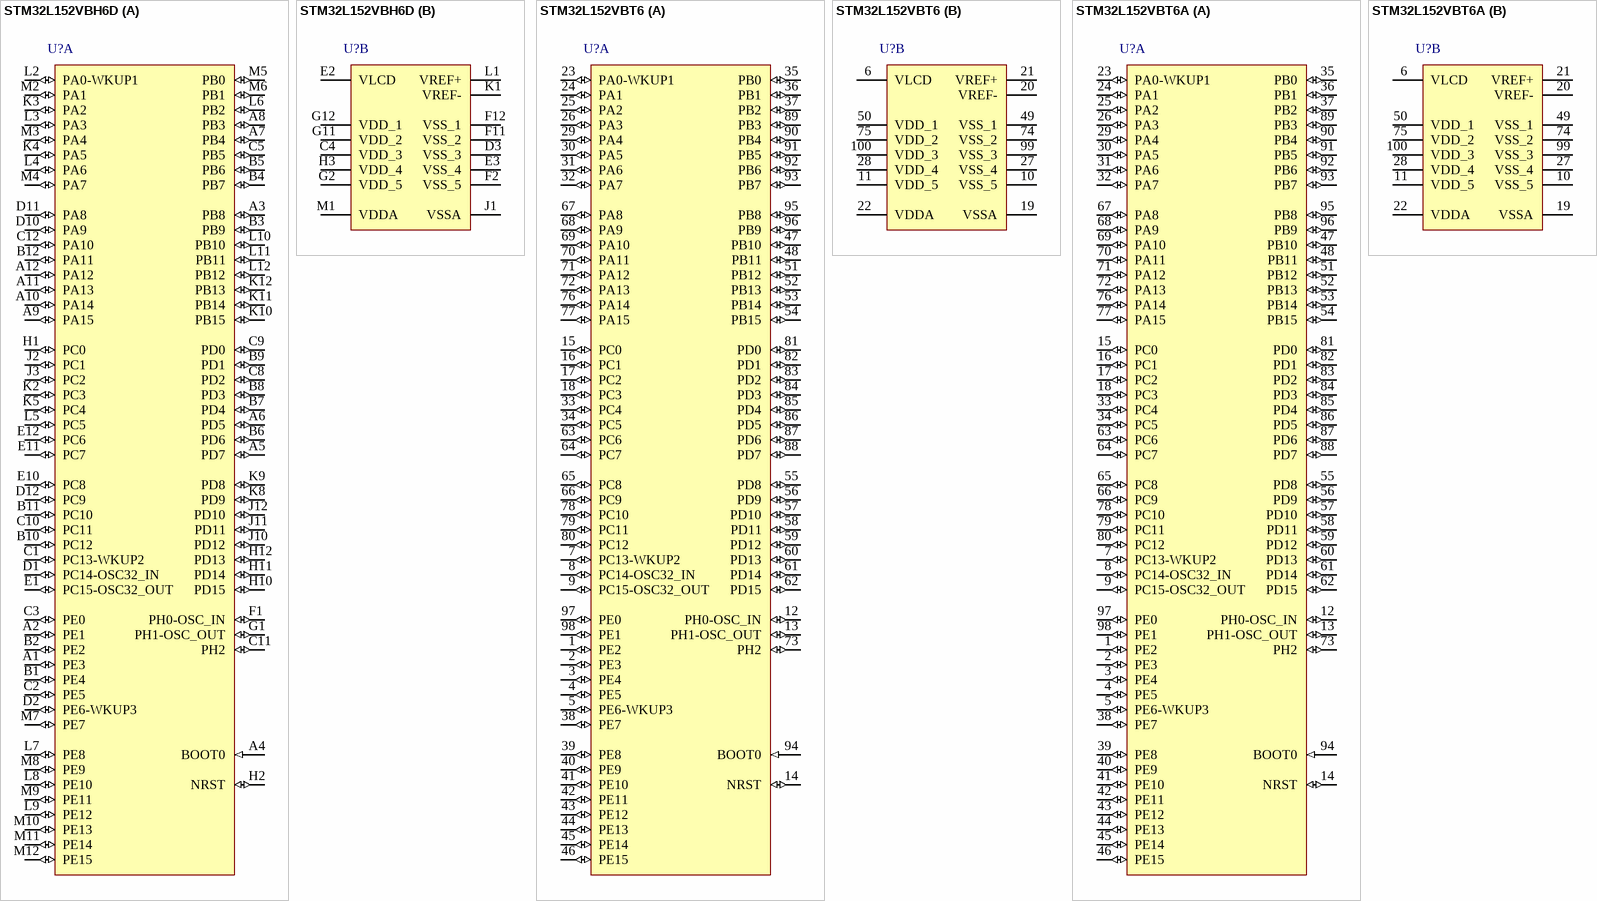
[diagram p20: symbols STM32L152VBH6D to STM32L152VBT6A]